# Altium schematic symbol library CHXXX.schlib: 418 symbols (part 3 of 6)
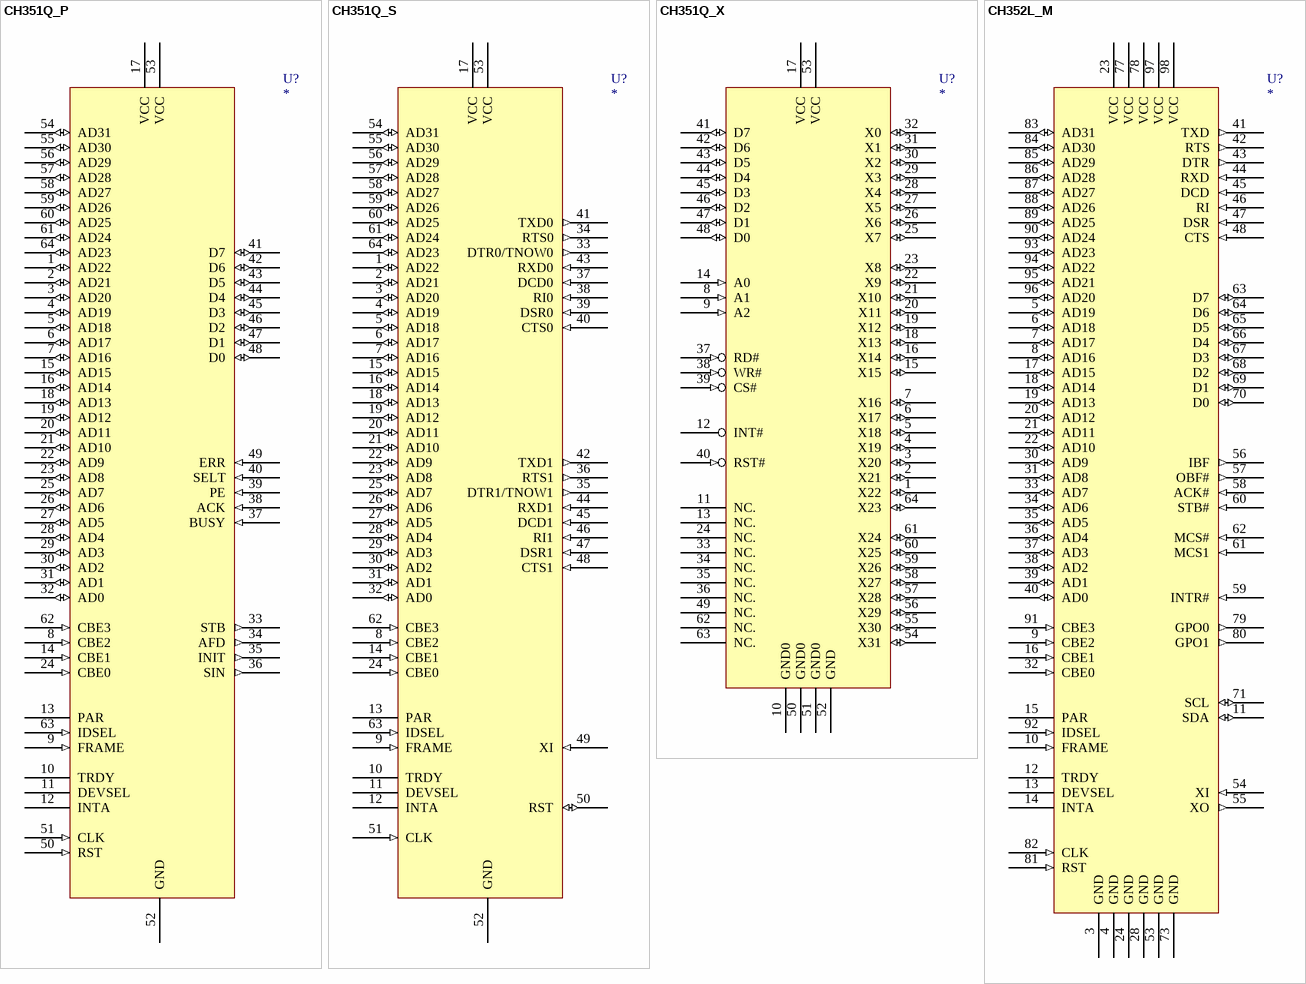
[diagram p52: symbols CH351Q_P to CH352L_M]

## CH351Q_X
designator U?
Parallel I/O expander, 32 GPIO
footprint LQFP64
pins: 1 X22 (io), 2 X21 (io), 3 X20 (io), 4 X19 (io), 5 X18 (io), 6 X17 (io), 7 X16 (io), 8 A1 (in), 9 A2 (in), 10 GND0 (power), 11 NC., 12 INT# (oc), 13 NC., 14 A0 (in), 15 X15 (io), 16 X14 (io), 17 VCC (power), 18 X13 (io), 19 X12 (io), 20 X11 (io), 21 X10 (io), 22 X9 (io), 23 X8 (io), 24 NC., 25 X7 (io), 26 X6 (io), 27 X5 (io), 28 X4 (io), 29 X3 (io), 30 X2 (io), 31 X1 (io), 32 X0 (io), 33 NC., 34 NC., 35 NC., 36 NC., 37 RD# (in), 38 WR# (in), 39 CS# (in), 40 RST# (in), 41 D7 (io), 42 D6 (io), 43 D5 (io), 44 D4 (io), 45 D3 (io), 46 D2 (io), 47 D1 (io), 48 D0 (io), 49 NC., 50 GND0 (power), 51 GND0 (power), 52 GND (power), 53 VCC (power), 54 X31 (io), 55 X30 (io), 56 X29 (io), 57 X28 (io), 58 X27 (io), 59 X26 (io), 60 X25 (io), 61 X24 (io), 62 NC., 63 NC., 64 X23 (io)

## CH352L_M
designator U?
PCI to 8255 mode 2 Parallel for MCU and 16C550 UART / IrDA
footprint LQFP100
pins: 3 GND (power), 4 GND (power), 5 AD19 (io), 6 AD18 (io), 7 AD17 (io), 8 AD16 (io), 9 CBE2 (in), 10 FRAME (in), 11 SDA (io), 12 TRDY (hiz), 13 DEVSEL (hiz), 14 INTA (hiz), 15 PAR (hiz), 16 CBE1 (in), 17 AD15 (io), 18 AD14 (io), 19 AD13 (io), 20 AD12 (io), 21 AD11 (io), 22 AD10 (io), 23 VCC (power), 24 GND (power), 28 GND (power), 30 AD9 (io), 31 AD8 (io), 32 CBE0 (in), 33 AD7 (io), 34 AD6 (io), 35 AD5 (io), 36 AD4 (io), 37 AD3 (io), 38 AD2 (io), 39 AD1 (io), 40 AD0 (io), 41 TXD (out), 42 RTS (out), 43 DTR (out), 44 RXD (in), 45 DCD (in), 46 RI (in), 47 DSR (in), 48 CTS (in), 53 GND (power), 54 XI (in), 55 XO (out), 56 IBF (out), 57 OBF# (out), 58 ACK# (in), 59 INTR# (in), 60 STB# (in), 61 MCS1 (in), 62 MCS# (in), 63 D7 (io), 64 D6 (io), 65 D5 (io), 66 D4 (io), 67 D3 (io), 68 D2 (io), 69 D1 (io), 70 D0 (io), 71 SCL (io), 73 GND (power), 77 VCC (power), 78 VCC (power), 79 GPO0 (out), 80 GPO1 (out), 81 RST (in), 82 CLK (in), 83 AD31 (io), 84 AD30 (io), 85 AD29 (io), 86 AD28 (io), 87 AD27 (io), 88 AD26 (io), 89 AD25 (io), 90 AD24 (io), 91 CBE3 (in), 92 IDSEL (in), 93 AD23 (io), 94 AD22 (io), 95 AD21 (io), 96 AD20 (io), 97 VCC (power), 98 VCC (power)

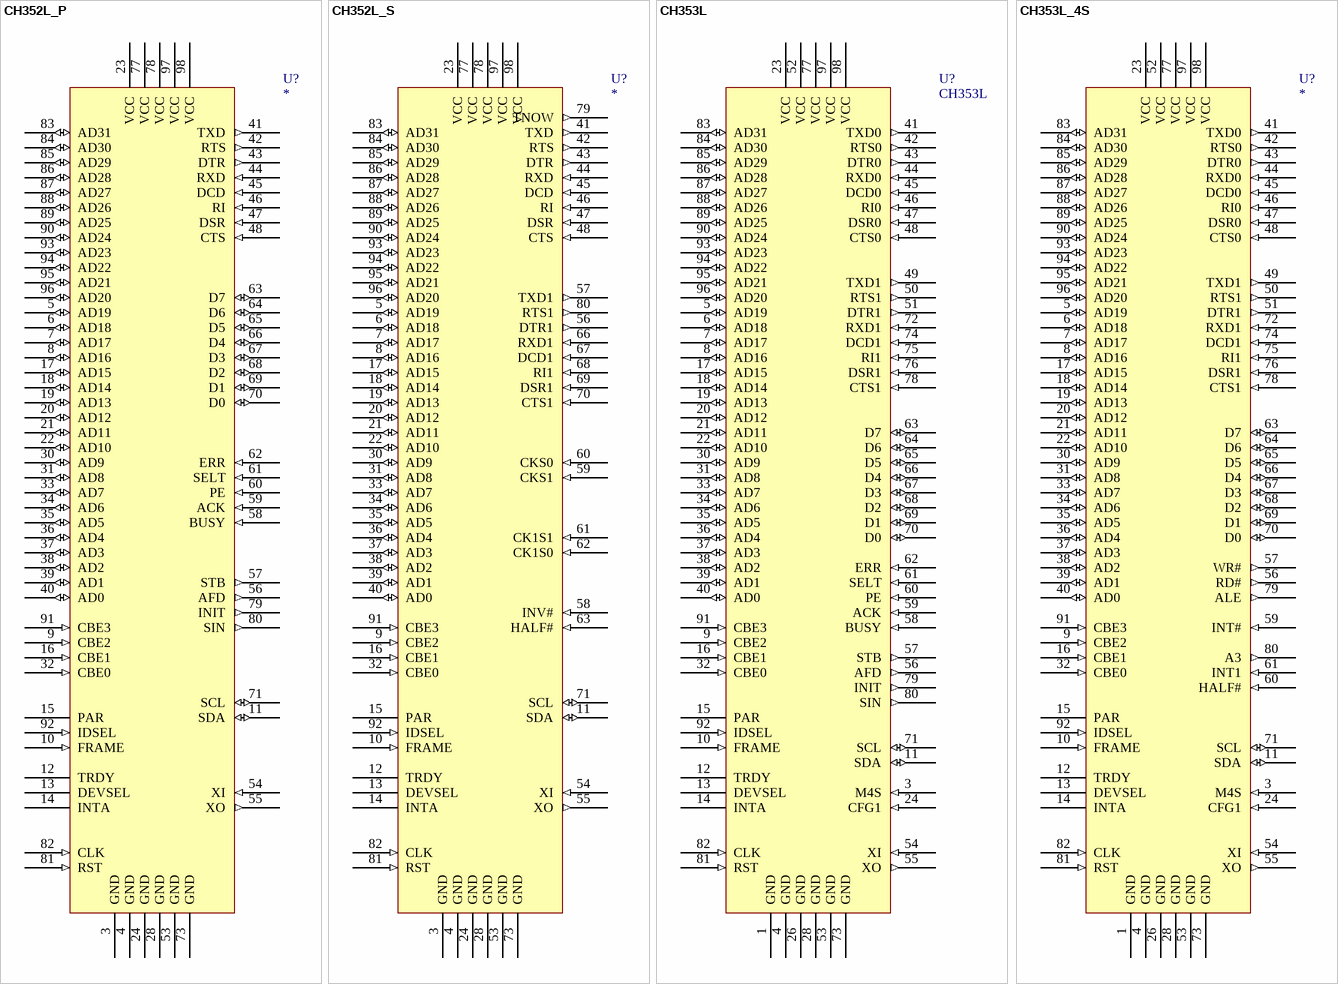
[diagram p18: symbols CH352L_P to CH353L_4S]

## CH352L_P
designator U?
PCI to 1S1P: Print Port / Parallel and 16C550 UART / IrDA
footprint LQFP100
pins: 3 GND (power), 4 GND (power), 5 AD19 (io), 6 AD18 (io), 7 AD17 (io), 8 AD16 (io), 9 CBE2 (in), 10 FRAME (in), 11 SDA (io), 12 TRDY (hiz), 13 DEVSEL (hiz), 14 INTA (hiz), 15 PAR (hiz), 16 CBE1 (in), 17 AD15 (io), 18 AD14 (io), 19 AD13 (io), 20 AD12 (io), 21 AD11 (io), 22 AD10 (io), 23 VCC (power), 24 GND (power), 28 GND (power), 30 AD9 (io), 31 AD8 (io), 32 CBE0 (in), 33 AD7 (io), 34 AD6 (io), 35 AD5 (io), 36 AD4 (io), 37 AD3 (io), 38 AD2 (io), 39 AD1 (io), 40 AD0 (io), 41 TXD (out), 42 RTS (out), 43 DTR (out), 44 RXD (in), 45 DCD (in), 46 RI (in), 47 DSR (in), 48 CTS (in), 53 GND (power), 54 XI (in), 55 XO (out), 56 AFD (out), 57 STB (out), 58 BUSY (in), 59 ACK (in), 60 PE (in), 61 SELT (in), 62 ERR (in), 63 D7 (io), 64 D6 (io), 65 D5 (io), 66 D4 (io), 67 D3 (io), 68 D2 (io), 69 D1 (io), 70 D0 (io), 71 SCL (io), 73 GND (power), 77 VCC (power), 78 VCC (power), 79 INIT (out), 80 SIN (out), 81 RST (in), 82 CLK (in), 83 AD31 (io), 84 AD30 (io), 85 AD29 (io), 86 AD28 (io), 87 AD27 (io), 88 AD26 (io), 89 AD25 (io), 90 AD24 (io), 91 CBE3 (in), 92 IDSEL (in), 93 AD23 (io), 94 AD22 (io), 95 AD21 (io), 96 AD20 (io), 97 VCC (power), 98 VCC (power)

## CH352L_S
designator U?
PCI to 2S: Dual 16C550 UART, TTL Serial*2 / IrDA*1
footprint LQFP100
pins: 3 GND (power), 4 GND (power), 5 AD19 (io), 6 AD18 (io), 7 AD17 (io), 8 AD16 (io), 9 CBE2 (in), 10 FRAME (in), 11 SDA (io), 12 TRDY (hiz), 13 DEVSEL (hiz), 14 INTA (hiz), 15 PAR (hiz), 16 CBE1 (in), 17 AD15 (io), 18 AD14 (io), 19 AD13 (io), 20 AD12 (io), 21 AD11 (io), 22 AD10 (io), 23 VCC (power), 24 GND (power), 28 GND (power), 30 AD9 (io), 31 AD8 (io), 32 CBE0 (in), 33 AD7 (io), 34 AD6 (io), 35 AD5 (io), 36 AD4 (io), 37 AD3 (io), 38 AD2 (io), 39 AD1 (io), 40 AD0 (io), 41 TXD (out), 42 RTS (out), 43 DTR (out), 44 RXD (in), 45 DCD (in), 46 RI (in), 47 DSR (in), 48 CTS (in), 53 GND (power), 54 XI (in), 55 XO (out), 56 DTR1 (out), 57 TXD1 (out), 58 INV# (in), 59 CKS1 (in), 60 CKS0 (in), 61 CK1S1 (in), 62 CK1S0 (in), 63 HALF# (in), 66 RXD1 (in), 67 DCD1 (in), 68 RI1 (in), 69 DSR1 (in), 70 CTS1 (in), 71 SCL (io), 73 GND (power), 77 VCC (power), 78 VCC (power), 79 TNOW (out), 80 RTS1 (out), 81 RST (in), 82 CLK (in), 83 AD31 (io), 84 AD30 (io), 85 AD29 (io), 86 AD28 (io), 87 AD27 (io), 88 AD26 (io), 89 AD25 (io), 90 AD24 (io), 91 CBE3 (in), 92 IDSEL (in), 93 AD23 (io), 94 AD22 (io), 95 AD21 (io), 96 AD20 (io), 97 VCC (power), 98 VCC (power)

## CH353L
designator U?
PCI to 2S1P: Print Port / Parallel and Dual 16C550 UART / IrDA*1
footprint LQFP100
pins: 1 GND (power), 3 M4S (in), 4 GND (power), 5 AD19 (io), 6 AD18 (io), 7 AD17 (io), 8 AD16 (io), 9 CBE2 (in), 10 FRAME (in), 11 SDA (io), 12 TRDY (hiz), 13 DEVSEL (hiz), 14 INTA (hiz), 15 PAR (hiz), 16 CBE1 (in), 17 AD15 (io), 18 AD14 (io), 19 AD13 (io), 20 AD12 (io), 21 AD11 (io), 22 AD10 (io), 23 VCC (power), 24 CFG1 (in), 26 GND (power), 28 GND (power), 30 AD9 (io), 31 AD8 (io), 32 CBE0 (in), 33 AD7 (io), 34 AD6 (io), 35 AD5 (io), 36 AD4 (io), 37 AD3 (io), 38 AD2 (io), 39 AD1 (io), 40 AD0 (io), 41 TXD0 (out), 42 RTS0 (out), 43 DTR0 (out), 44 RXD0 (in), 45 DCD0 (in), 46 RI0 (in), 47 DSR0 (in), 48 CTS0 (in), 49 TXD1 (out), 50 RTS1 (out), 51 DTR1 (out), 52 VCC (power), 53 GND (power), 54 XI (in), 55 XO (out), 56 AFD (out), 57 STB (out), 58 BUSY (in), 59 ACK (in), 60 PE (in), 61 SELT (in), 62 ERR (in), 63 D7 (io), 64 D6 (io), 65 D5 (io), 66 D4 (io), 67 D3 (io), 68 D2 (io), 69 D1 (io), 70 D0 (io), 71 SCL (io), 72 RXD1 (in), 73 GND (power), 74 DCD1 (in), 75 RI1 (in), 76 DSR1 (in), 77 VCC (power), 78 CTS1 (in), 79 INIT (out), 80 SIN (out), 81 RST (in), 82 CLK (in), 83 AD31 (io), 84 AD30 (io), 85 AD29 (io), 86 AD28 (io), 87 AD27 (io), 88 AD26 (io), 89 AD25 (io), 90 AD24 (io), 91 CBE3 (in), 92 IDSEL (in), 93 AD23 (io), 94 AD22 (io), 95 AD21 (io), 96 AD20 (io), 97 VCC (power), 98 VCC (power)

## CH353L_4S
designator U?
PCI to 4S: Dual 16C550 UART + external dual, TTL Serial*4
footprint LQFP100
pins: 1 GND (power), 3 M4S (in), 4 GND (power), 5 AD19 (io), 6 AD18 (io), 7 AD17 (io), 8 AD16 (io), 9 CBE2 (in), 10 FRAME (in), 11 SDA (io), 12 TRDY (hiz), 13 DEVSEL (hiz), 14 INTA (hiz), 15 PAR (hiz), 16 CBE1 (in), 17 AD15 (io), 18 AD14 (io), 19 AD13 (io), 20 AD12 (io), 21 AD11 (io), 22 AD10 (io), 23 VCC (power), 24 CFG1 (in), 26 GND (power), 28 GND (power), 30 AD9 (io), 31 AD8 (io), 32 CBE0 (in), 33 AD7 (io), 34 AD6 (io), 35 AD5 (io), 36 AD4 (io), 37 AD3 (io), 38 AD2 (io), 39 AD1 (io), 40 AD0 (io), 41 TXD0 (out), 42 RTS0 (out), 43 DTR0 (out), 44 RXD0 (in), 45 DCD0 (in), 46 RI0 (in), 47 DSR0 (in), 48 CTS0 (in), 49 TXD1 (out), 50 RTS1 (out), 51 DTR1 (out), 52 VCC (power), 53 GND (power), 54 XI (in), 55 XO (out), 56 RD# (out), 57 WR# (out), 59 INT# (in), 60 HALF# (in), 61 INT1 (in), 63 D7 (io), 64 D6 (io), 65 D5 (io), 66 D4 (io), 67 D3 (io), 68 D2 (io), 69 D1 (io), 70 D0 (io), 71 SCL (io), 72 RXD1 (in), 73 GND (power), 74 DCD1 (in), 75 RI1 (in), 76 DSR1 (in), 77 VCC (power), 78 CTS1 (in), 79 ALE (out), 80 A3 (out), 81 RST (in), 82 CLK (in), 83 AD31 (io), 84 AD30 (io), 85 AD29 (io), 86 AD28 (io), 87 AD27 (io), 88 AD26 (io), 89 AD25 (io), 90 AD24 (io), 91 CBE3 (in), 92 IDSEL (in), 93 AD23 (io), 94 AD22 (io), 95 AD21 (io), 96 AD20 (io), 97 VCC (power), 98 VCC (power)

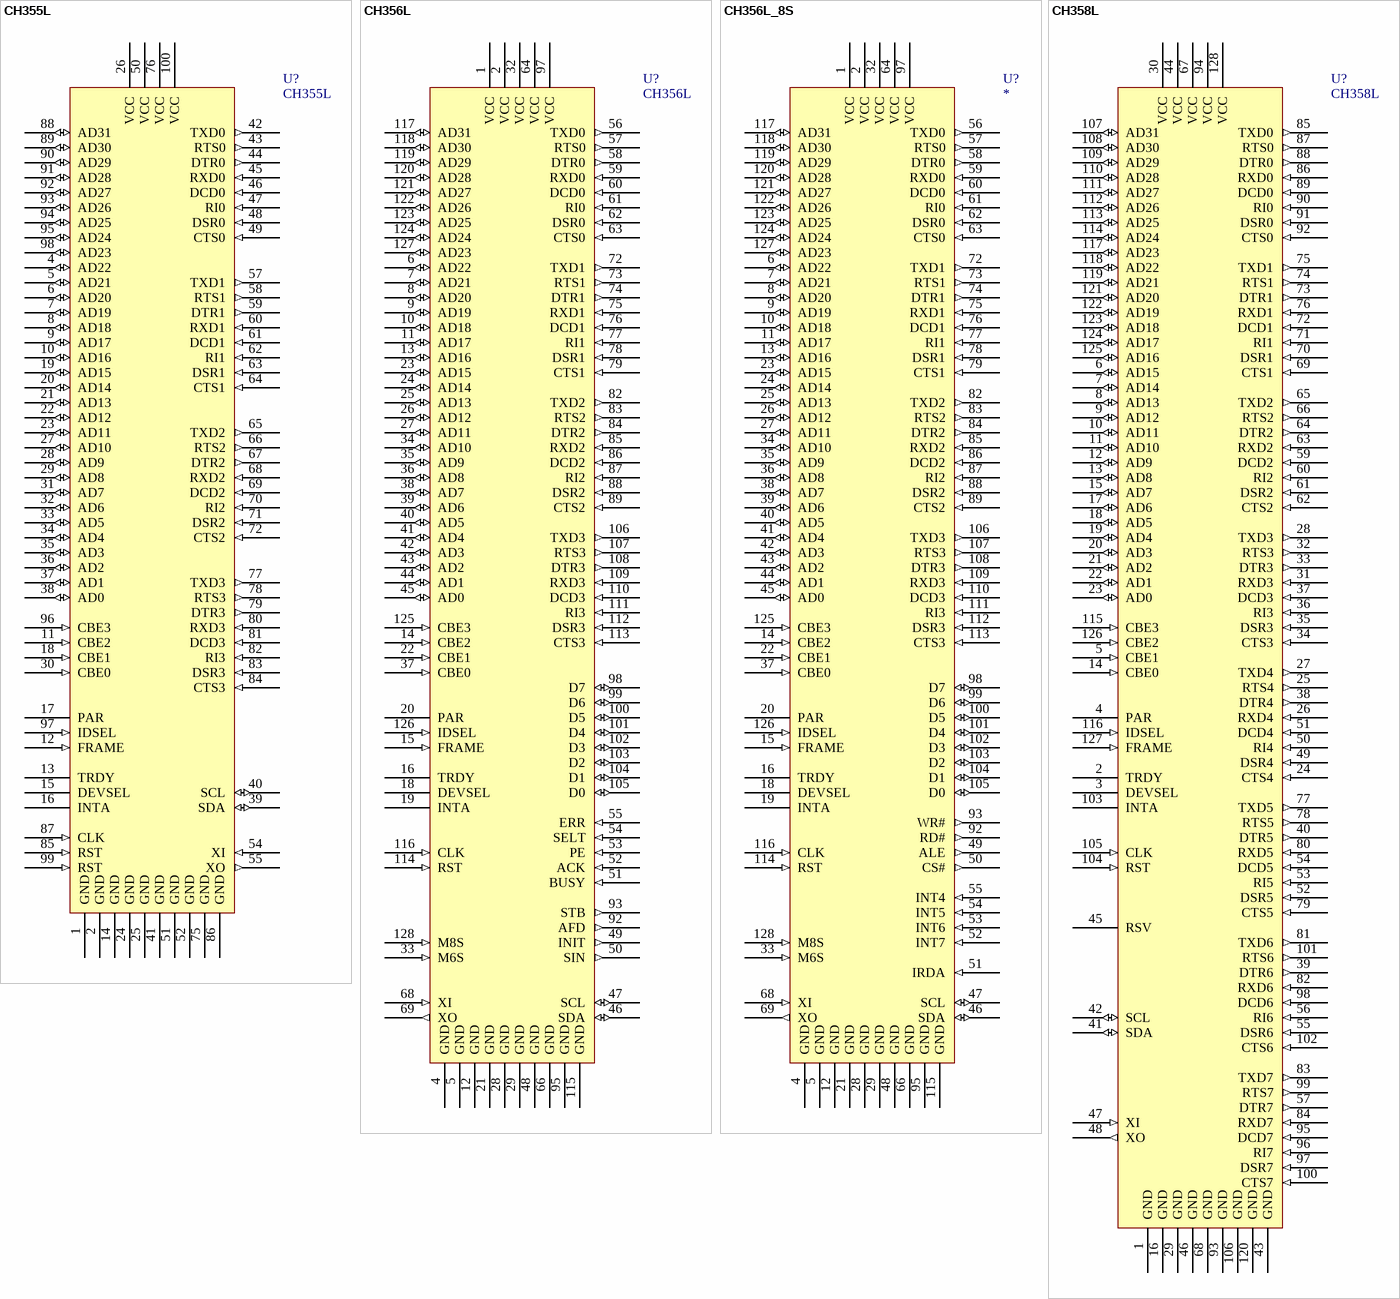
[diagram p19: symbols CH355L to CH358L]

## CH355L
designator U?
PCI to 4S: Quad 16C550 UART, TTL Serial*4 / IrDA*1
footprint LQFP100
pins: 1 GND (power), 2 GND (power), 4 AD22 (io), 5 AD21 (io), 6 AD20 (io), 7 AD19 (io), 8 AD18 (io), 9 AD17 (io), 10 AD16 (io), 11 CBE2 (in), 12 FRAME (in), 13 TRDY (hiz), 14 GND (power), 15 DEVSEL (hiz), 16 INTA (hiz), 17 PAR (hiz), 18 CBE1 (in), 19 AD15 (io), 20 AD14 (io), 21 AD13 (io), 22 AD12 (io), 23 AD11 (io), 24 GND (power), 25 GND (power), 26 VCC (power), 27 AD10 (io), 28 AD9 (io), 29 AD8 (io), 30 CBE0 (in), 31 AD7 (io), 32 AD6 (io), 33 AD5 (io), 34 AD4 (io), 35 AD3 (io), 36 AD2 (io), 37 AD1 (io), 38 AD0 (io), 39 SDA (io), 40 SCL (io), 41 GND (power), 42 TXD0 (out), 43 RTS0 (out), 44 DTR0 (out), 45 RXD0 (in), 46 DCD0 (in), 47 RI0 (in), 48 DSR0 (in), 49 CTS0 (in), 50 VCC (power), 51 GND (power), 52 GND (power), 54 XI (in), 55 XO (out), 57 TXD1 (out), 58 RTS1 (out), 59 DTR1 (out), 60 RXD1 (in), 61 DCD1 (in), 62 RI1 (in), 63 DSR1 (in), 64 CTS1 (in), 65 TXD2 (out), 66 RTS2 (out), 67 DTR2 (out), 68 RXD2 (in), 69 DCD2 (in), 70 RI2 (in), 71 DSR2 (in), 72 CTS2 (in), 75 GND (power), 76 VCC (power), 77 TXD3 (out), 78 RTS3 (out), 79 DTR3 (out), 80 RXD3 (in), 81 DCD3 (in), 82 RI3 (in), 83 DSR3 (in), 84 CTS3 (in), 85 RST (in), 86 GND (power), 87 CLK (in), 88 AD31 (io), 89 AD30 (io), 90 AD29 (io), 91 AD28 (io), 92 AD27 (io), 93 AD26 (io), 94 AD25 (io), 95 AD24 (io), 96 CBE3 (in), 97 IDSEL (in), 98 AD23 (io), 99 RST (in), 100 VCC (power)

## CH356L
designator U?
PCI to 4S1P: Print Port / Parallel and Quad 16C550 UART / IrDA*1
footprint LQFP128
pins: 1 VCC (power), 2 VCC (power), 4 GND (power), 5 GND (power), 6 AD22 (io), 7 AD21 (io), 8 AD20 (io), 9 AD19 (io), 10 AD18 (io), 11 AD17 (io), 12 GND (power), 13 AD16 (io), 14 CBE2 (in), 15 FRAME (in), 16 TRDY (hiz), 18 DEVSEL (hiz), 19 INTA (hiz), 20 PAR (hiz), 21 GND (power), 22 CBE1 (in), 23 AD15 (io), 24 AD14 (io), 25 AD13 (io), 26 AD12 (io), 27 AD11 (io), 28 GND (power), 29 GND (power), 32 VCC (power), 33 M6S (in), 34 AD10 (io), 35 AD9 (io), 36 AD8 (io), 37 CBE0 (in), 38 AD7 (io), 39 AD6 (io), 40 AD5 (io), 41 AD4 (io), 42 AD3 (io), 43 AD2 (io), 44 AD1 (io), 45 AD0 (io), 46 SDA (io), 47 SCL (io), 48 GND (power), 49 INIT (out), 50 SIN (out), 51 BUSY (in), 52 ACK (in), 53 PE (in), 54 SELT (in), 55 ERR (in), 56 TXD0 (out), 57 RTS0 (out), 58 DTR0 (out), 59 RXD0 (in), 60 DCD0 (in), 61 RI0 (in), 62 DSR0 (in), 63 CTS0 (in), 64 VCC (power), 66 GND (power), 68 XI (in), 69 XO (out), 72 TXD1 (out), 73 RTS1 (out), 74 DTR1 (out), 75 RXD1 (in), 76 DCD1 (in), 77 RI1 (in), 78 DSR1 (in), 79 CTS1 (in), 82 TXD2 (out), 83 RTS2 (out), 84 DTR2 (out), 85 RXD2 (in), 86 DCD2 (in), 87 RI2 (in), 88 DSR2 (in), 89 CTS2 (in), 92 AFD (out), 93 STB (out), 95 GND (power), 97 VCC (power), 98 D7 (io), 99 D6 (io), 100 D5 (io), 101 D4 (io), 102 D3 (io), 103 D2 (io), 104 D1 (io), 105 D0 (io), 106 TXD3 (out), 107 RTS3 (out), 108 DTR3 (out), 109 RXD3 (in), 110 DCD3 (in), 111 RI3 (in), 112 DSR3 (in), 113 CTS3 (in), 114 RST (in), 115 GND (power), 116 CLK (in), 117 AD31 (io), 118 AD30 (io), 119 AD29 (io), 120 AD28 (io), 121 AD27 (io), 122 AD26 (io), 123 AD25 (io), 124 AD24 (io), 125 CBE3 (in), 126 IDSEL (in), 127 AD23 (io), 128 M8S (in)

## CH356L_8S
designator U?
PCI to 8S: Quad 16C550 UART + external Quad, TTL Serial*8
footprint LQFP128
pins: 1 VCC (power), 2 VCC (power), 4 GND (power), 5 GND (power), 6 AD22 (io), 7 AD21 (io), 8 AD20 (io), 9 AD19 (io), 10 AD18 (io), 11 AD17 (io), 12 GND (power), 13 AD16 (io), 14 CBE2 (in), 15 FRAME (in), 16 TRDY (hiz), 18 DEVSEL (hiz), 19 INTA (hiz), 20 PAR (hiz), 21 GND (power), 22 CBE1 (in), 23 AD15 (io), 24 AD14 (io), 25 AD13 (io), 26 AD12 (io), 27 AD11 (io), 28 GND (power), 29 GND (power), 32 VCC (power), 33 M6S (in), 34 AD10 (io), 35 AD9 (io), 36 AD8 (io), 37 CBE0 (in), 38 AD7 (io), 39 AD6 (io), 40 AD5 (io), 41 AD4 (io), 42 AD3 (io), 43 AD2 (io), 44 AD1 (io), 45 AD0 (io), 46 SDA (io), 47 SCL (io), 48 GND (power), 49 ALE (out), 50 CS# (out), 51 IRDA (in), 52 INT7 (in), 53 INT6 (in), 54 INT5 (in), 55 INT4 (in), 56 TXD0 (out), 57 RTS0 (out), 58 DTR0 (out), 59 RXD0 (in), 60 DCD0 (in), 61 RI0 (in), 62 DSR0 (in), 63 CTS0 (in), 64 VCC (power), 66 GND (power), 68 XI (in), 69 XO (out), 72 TXD1 (out), 73 RTS1 (out), 74 DTR1 (out), 75 RXD1 (in), 76 DCD1 (in), 77 RI1 (in), 78 DSR1 (in), 79 CTS1 (in), 82 TXD2 (out), 83 RTS2 (out), 84 DTR2 (out), 85 RXD2 (in), 86 DCD2 (in), 87 RI2 (in), 88 DSR2 (in), 89 CTS2 (in), 92 RD# (out), 93 WR# (out), 95 GND (power), 97 VCC (power), 98 D7 (io), 99 D6 (io), 100 D5 (io), 101 D4 (io), 102 D3 (io), 103 D2 (io), 104 D1 (io), 105 D0 (io), 106 TXD3 (out), 107 RTS3 (out), 108 DTR3 (out), 109 RXD3 (in), 110 DCD3 (in), 111 RI3 (in), 112 DSR3 (in), 113 CTS3 (in), 114 RST (in), 115 GND (power), 116 CLK (in), 117 AD31 (io), 118 AD30 (io), 119 AD29 (io), 120 AD28 (io), 121 AD27 (io), 122 AD26 (io), 123 AD25 (io), 124 AD24 (io), 125 CBE3 (in), 126 IDSEL (in), 127 AD23 (io), 128 M8S (in)

## CH358L
designator U?
PCI to 8S: Oct 16C550 UART with 128 byte FIFO, TTL Serial*8 / IrDA*1
footprint LQFP128
pins: 1 GND (power), 2 TRDY (hiz), 3 DEVSEL (hiz), 4 PAR (hiz), 5 CBE1 (in), 6 AD15 (io), 7 AD14 (io), 8 AD13 (io), 9 AD12 (io), 10 AD11 (io), 11 AD10 (io), 12 AD9 (io), 13 AD8 (io), 14 CBE0 (in), 15 AD7 (io), 16 GND (power), 17 AD6 (io), 18 AD5 (io), 19 AD4 (io), 20 AD3 (io), 21 AD2 (io), 22 AD1 (io), 23 AD0 (io), 24 CTS4 (in), 25 RTS4 (out), 26 RXD4 (in), 27 TXD4 (out), 28 TXD3 (out), 29 GND (power), 30 VCC (power), 31 RXD3 (in), 32 RTS3 (out), 33 DTR3 (out), 34 CTS3 (in), 35 DSR3 (in), 36 RI3 (in), 37 DCD3 (in), 38 DTR4 (out), 39 DTR6 (out), 40 DTR5 (out), 41 SDA (io), 42 SCL (io), 43 GND (power), 44 VCC (power), 45 RSV, 46 GND (power), 47 XI (in), 48 XO (out), 49 DSR4 (in), 50 RI4 (in), 51 DCD4 (in), 52 DSR5 (in), 53 RI5 (in), 54 DCD5 (in), 55 DSR6 (in), 56 RI6 (in), 57 DTR7 (out), 59 DCD2 (in), 60 RI2 (in), 61 DSR2 (in), 62 CTS2 (in), 63 RXD2 (in), 64 DTR2 (out), 65 TXD2 (out), 66 RTS2 (out), 67 VCC (power), 68 GND (power), 69 CTS1 (in), 70 DSR1 (in), 71 RI1 (in), 72 DCD1 (in), 73 DTR1 (out), 74 RTS1 (out), 75 TXD1 (out), 76 RXD1 (in), 77 TXD5 (out), 78 RTS5 (out), 79 CTS5 (in), 80 RXD5 (in), 81 TXD6 (out), 82 RXD6 (in), 83 TXD7 (out), 84 RXD7 (in), 85 TXD0 (out), 86 RXD0 (in), 87 RTS0 (out), 88 DTR0 (out), 89 DCD0 (in), 90 RI0 (in), 91 DSR0 (in), 92 CTS0 (in), 93 GND (power), 94 VCC (power), 95 DCD7 (in), 96 RI7 (in), 97 DSR7 (in), 98 DCD6 (in), 99 RTS7 (out), 100 CTS7 (in), 101 RTS6 (out), 102 CTS6 (in), 103 INTA (hiz), 104 RST (in), 105 CLK (in), 106 GND (power), 107 AD31 (io), 108 AD30 (io), 109 AD29 (io), 110 AD28 (io), 111 AD27 (io), 112 AD26 (io), 113 AD25 (io), 114 AD24 (io), 115 CBE3 (in), 116 IDSEL (in), 117 AD23 (io), 118 AD22 (io), 119 AD21 (io), 120 GND (power), 121 AD20 (io), 122 AD19 (io), 123 AD18 (io), 124 AD17 (io), 125 AD16 (io), 126 CBE2 (in), 127 FRAME (in), 128 VCC (power)

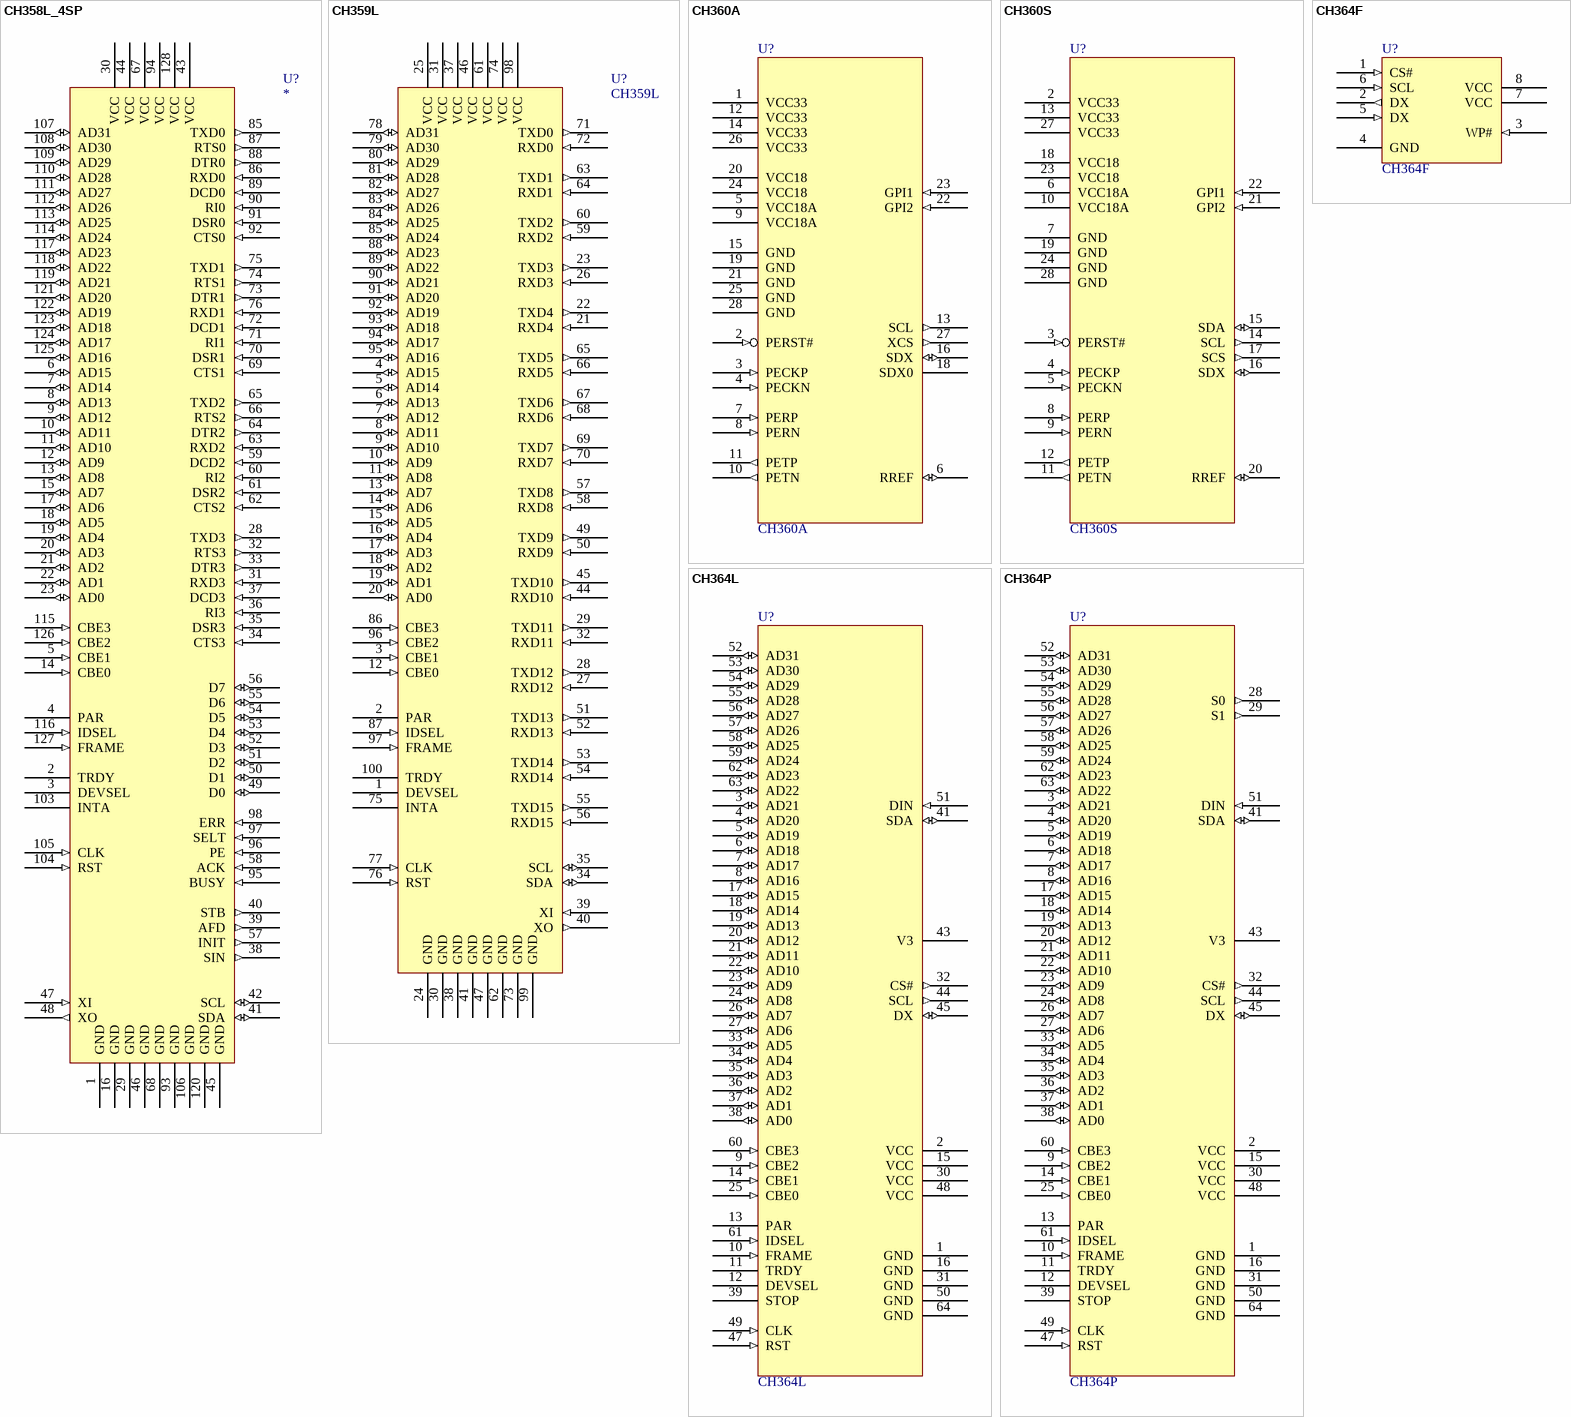
[diagram p20: symbols CH358L_4SP to CH364P]

## CH358L_4SP
designator U?
PCI to 4S1P: Print Port / Parallel and Quad 16C550 UART with 128 byte FIFO
footprint LQFP128
pins: 1 GND (power), 2 TRDY (hiz), 3 DEVSEL (hiz), 4 PAR (hiz), 5 CBE1 (in), 6 AD15 (io), 7 AD14 (io), 8 AD13 (io), 9 AD12 (io), 10 AD11 (io), 11 AD10 (io), 12 AD9 (io), 13 AD8 (io), 14 CBE0 (in), 15 AD7 (io), 16 GND (power), 17 AD6 (io), 18 AD5 (io), 19 AD4 (io), 20 AD3 (io), 21 AD2 (io), 22 AD1 (io), 23 AD0 (io), 28 TXD3 (out), 29 GND (power), 30 VCC (power), 31 RXD3 (in), 32 RTS3 (out), 33 DTR3 (out), 34 CTS3 (in), 35 DSR3 (in), 36 RI3 (in), 37 DCD3 (in), 38 SIN (out), 39 AFD (out), 40 STB (out), 41 SDA (io), 42 SCL (io), 43 VCC (power), 44 VCC (power), 45 GND (power), 46 GND (power), 47 XI (in), 48 XO (out), 49 D0 (io), 50 D1 (io), 51 D2 (io), 52 D3 (io), 53 D4 (io), 54 D5 (io), 55 D6 (io), 56 D7 (io), 57 INIT (out), 58 ACK (in), 59 DCD2 (in), 60 RI2 (in), 61 DSR2 (in), 62 CTS2 (in), 63 RXD2 (in), 64 DTR2 (out), 65 TXD2 (out), 66 RTS2 (out), 67 VCC (power), 68 GND (power), 69 CTS1 (in), 70 DSR1 (in), 71 RI1 (in), 72 DCD1 (in), 73 DTR1 (out), 74 RTS1 (out), 75 TXD1 (out), 76 RXD1 (in), 85 TXD0 (out), 86 RXD0 (in), 87 RTS0 (out), 88 DTR0 (out), 89 DCD0 (in), 90 RI0 (in), 91 DSR0 (in), 92 CTS0 (in), 93 GND (power), 94 VCC (power), 95 BUSY (in), 96 PE (in), 97 SELT (in), 98 ERR (in), 103 INTA (hiz), 104 RST (in), 105 CLK (in), 106 GND (power), 107 AD31 (io), 108 AD30 (io), 109 AD29 (io), 110 AD28 (io), 111 AD27 (io), 112 AD26 (io), 113 AD25 (io), 114 AD24 (io), 115 CBE3 (in), 116 IDSEL (in), 117 AD23 (io), 118 AD22 (io), 119 AD21 (io), 120 GND (power), 121 AD20 (io), 122 AD19 (io), 123 AD18 (io), 124 AD17 (io), 125 AD16 (io), 126 CBE2 (in), 127 FRAME (in), 128 VCC (power)

## CH359L
designator U?
PCI to 16S: TTL 3 wire Serial*16, 128 byte FIFO, no modem
footprint LQFP100
pins: 1 DEVSEL (hiz), 2 PAR (hiz), 3 CBE1 (in), 4 AD15 (io), 5 AD14 (io), 6 AD13 (io), 7 AD12 (io), 8 AD11 (io), 9 AD10 (io), 10 AD9 (io), 11 AD8 (io), 12 CBE0 (in), 13 AD7 (io), 14 AD6 (io), 15 AD5 (io), 16 AD4 (io), 17 AD3 (io), 18 AD2 (io), 19 AD1 (io), 20 AD0 (io), 21 RXD4 (in), 22 TXD4 (out), 23 TXD3 (out), 24 GND (power), 25 VCC (power), 26 RXD3 (in), 27 RXD12 (in), 28 TXD12 (out), 29 TXD11 (out), 30 GND (power), 31 VCC (power), 32 RXD11 (in), 34 SDA (io), 35 SCL (io), 37 VCC (power), 38 GND (power), 39 XI (in), 40 XO (out), 41 GND (power), 44 RXD10 (in), 45 TXD10 (out), 46 VCC (power), 47 GND (power), 49 TXD9 (out), 50 RXD9 (in), 51 TXD13 (out), 52 RXD13 (in), 53 TXD14 (out), 54 RXD14 (in), 55 TXD15 (out), 56 RXD15 (in), 57 TXD8 (out), 58 RXD8 (in), 59 RXD2 (in), 60 TXD2 (out), 61 VCC (power), 62 GND (power), 63 TXD1 (out), 64 RXD1 (in), 65 TXD5 (out), 66 RXD5 (in), 67 TXD6 (out), 68 RXD6 (in), 69 TXD7 (out), 70 RXD7 (in), 71 TXD0 (out), 72 RXD0 (in), 73 GND (power), 74 VCC (power), 75 INTA (hiz), 76 RST (in), 77 CLK (in), 78 AD31 (io), 79 AD30 (io), 80 AD29 (io), 81 AD28 (io), 82 AD27 (io), 83 AD26 (io), 84 AD25 (io), 85 AD24 (io), 86 CBE3 (in), 87 IDSEL (in), 88 AD23 (io), 89 AD22 (io), 90 AD21 (io), 91 AD20 (io), 92 AD19 (io), 93 AD18 (io), 94 AD17 (io), 95 AD16 (io), 96 CBE2 (in), 97 FRAME (in), 98 VCC (power), 99 GND (power), 100 TRDY (hiz)

## CH360A
designator U?
PCIe Device embed FlashROM for Expansion ROM
footprint SOP28
pins: 1 VCC33 (power), 2 PERST# (in), 3 PECKP (in), 4 PECKN (in), 5 VCC18A (power), 6 RREF (io), 7 PERP (in), 8 PERN (in), 9 VCC18A (power), 10 PETN (out), 11 PETP (out), 12 VCC33 (power), 13 SCL (out), 14 VCC33 (power), 15 GND (power), 16 SDX (io), 18 SDX0 (hiz), 19 GND (power), 20 VCC18 (power), 21 GND (power), 22 GPI2 (in), 23 GPI1 (in), 24 VCC18 (power), 25 GND (power), 26 VCC33 (power), 27 XCS (out), 28 GND (power)

## CH360S
designator U?
PCIe Device for Expansion ROM
footprint SOP28
pins: 2 VCC33 (power), 3 PERST# (in), 4 PECKP (in), 5 PECKN (in), 6 VCC18A (power), 7 GND (power), 8 PERP (in), 9 PERN (in), 10 VCC18A (power), 11 PETN (out), 12 PETP (out), 13 VCC33 (power), 14 SCL (out), 15 SDA (io), 16 SDX (io), 17 SCS (out), 18 VCC18 (power), 19 GND (power), 20 RREF (io), 21 GPI2 (in), 22 GPI1 (in), 23 VCC18 (power), 24 GND (power), 27 VCC33 (power), 28 GND (power)

## CH364F
designator U?
Flash ROM, Member of CH364/CH366 chipsets
footprint SOP8
pins: 1 CS# (in), 2 DX (out), 3 WP# (in), 4 GND (power), 5 DX (in), 6 SCL (in), 7 VCC (power), 8 VCC (power)

## CH364L
designator U?
PCI Device / Slave Embedded Flash ROM, for Expansion ROM
footprint QFP64
pins: 1 GND (power), 2 VCC (power), 3 AD21 (io), 4 AD20 (io), 5 AD19 (io), 6 AD18 (io), 7 AD17 (io), 8 AD16 (io), 9 CBE2 (in), 10 FRAME (in), 11 TRDY (hiz), 12 DEVSEL (hiz), 13 PAR (hiz), 14 CBE1 (in), 15 VCC (power), 16 GND (power), 17 AD15 (io), 18 AD14 (io), 19 AD13 (io), 20 AD12 (io), 21 AD11 (io), 22 AD10 (io), 23 AD9 (io), 24 AD8 (io), 25 CBE0 (in), 26 AD7 (io), 27 AD6 (io), 30 VCC (power), 31 GND (power), 32 CS# (out), 33 AD5 (io), 34 AD4 (io), 35 AD3 (io), 36 AD2 (io), 37 AD1 (io), 38 AD0 (io), 39 STOP (hiz), 41 SDA (io), 43 V3 (power), 44 SCL (out), 45 DX (io), 47 RST (in), 48 VCC (power), 49 CLK (in), 50 GND (power), 51 DIN (in), 52 AD31 (io), 53 AD30 (io), 54 AD29 (io), 55 AD28 (io), 56 AD27 (io), 57 AD26 (io), 58 AD25 (io), 59 AD24 (io), 60 CBE3 (in), 61 IDSEL (in), 62 AD23 (io), 63 AD22 (io), 64 GND (power)

## CH364P
designator U?
PCI Device / Slave Embedded Flash ROM, for Expansion ROM with control
footprint QFP64
pins: 1 GND (power), 2 VCC (power), 3 AD21 (io), 4 AD20 (io), 5 AD19 (io), 6 AD18 (io), 7 AD17 (io), 8 AD16 (io), 9 CBE2 (in), 10 FRAME (in), 11 TRDY (hiz), 12 DEVSEL (hiz), 13 PAR (hiz), 14 CBE1 (in), 15 VCC (power), 16 GND (power), 17 AD15 (io), 18 AD14 (io), 19 AD13 (io), 20 AD12 (io), 21 AD11 (io), 22 AD10 (io), 23 AD9 (io), 24 AD8 (io), 25 CBE0 (in), 26 AD7 (io), 27 AD6 (io), 28 S0 (out), 29 S1 (out), 30 VCC (power), 31 GND (power), 32 CS# (out), 33 AD5 (io), 34 AD4 (io), 35 AD3 (io), 36 AD2 (io), 37 AD1 (io), 38 AD0 (io), 39 STOP (hiz), 41 SDA (io), 43 V3 (power), 44 SCL (out), 45 DX (io), 47 RST (in), 48 VCC (power), 49 CLK (in), 50 GND (power), 51 DIN (in), 52 AD31 (io), 53 AD30 (io), 54 AD29 (io), 55 AD28 (io), 56 AD27 (io), 57 AD26 (io), 58 AD25 (io), 59 AD24 (io), 60 CBE3 (in), 61 IDSEL (in), 62 AD23 (io), 63 AD22 (io), 64 GND (power)

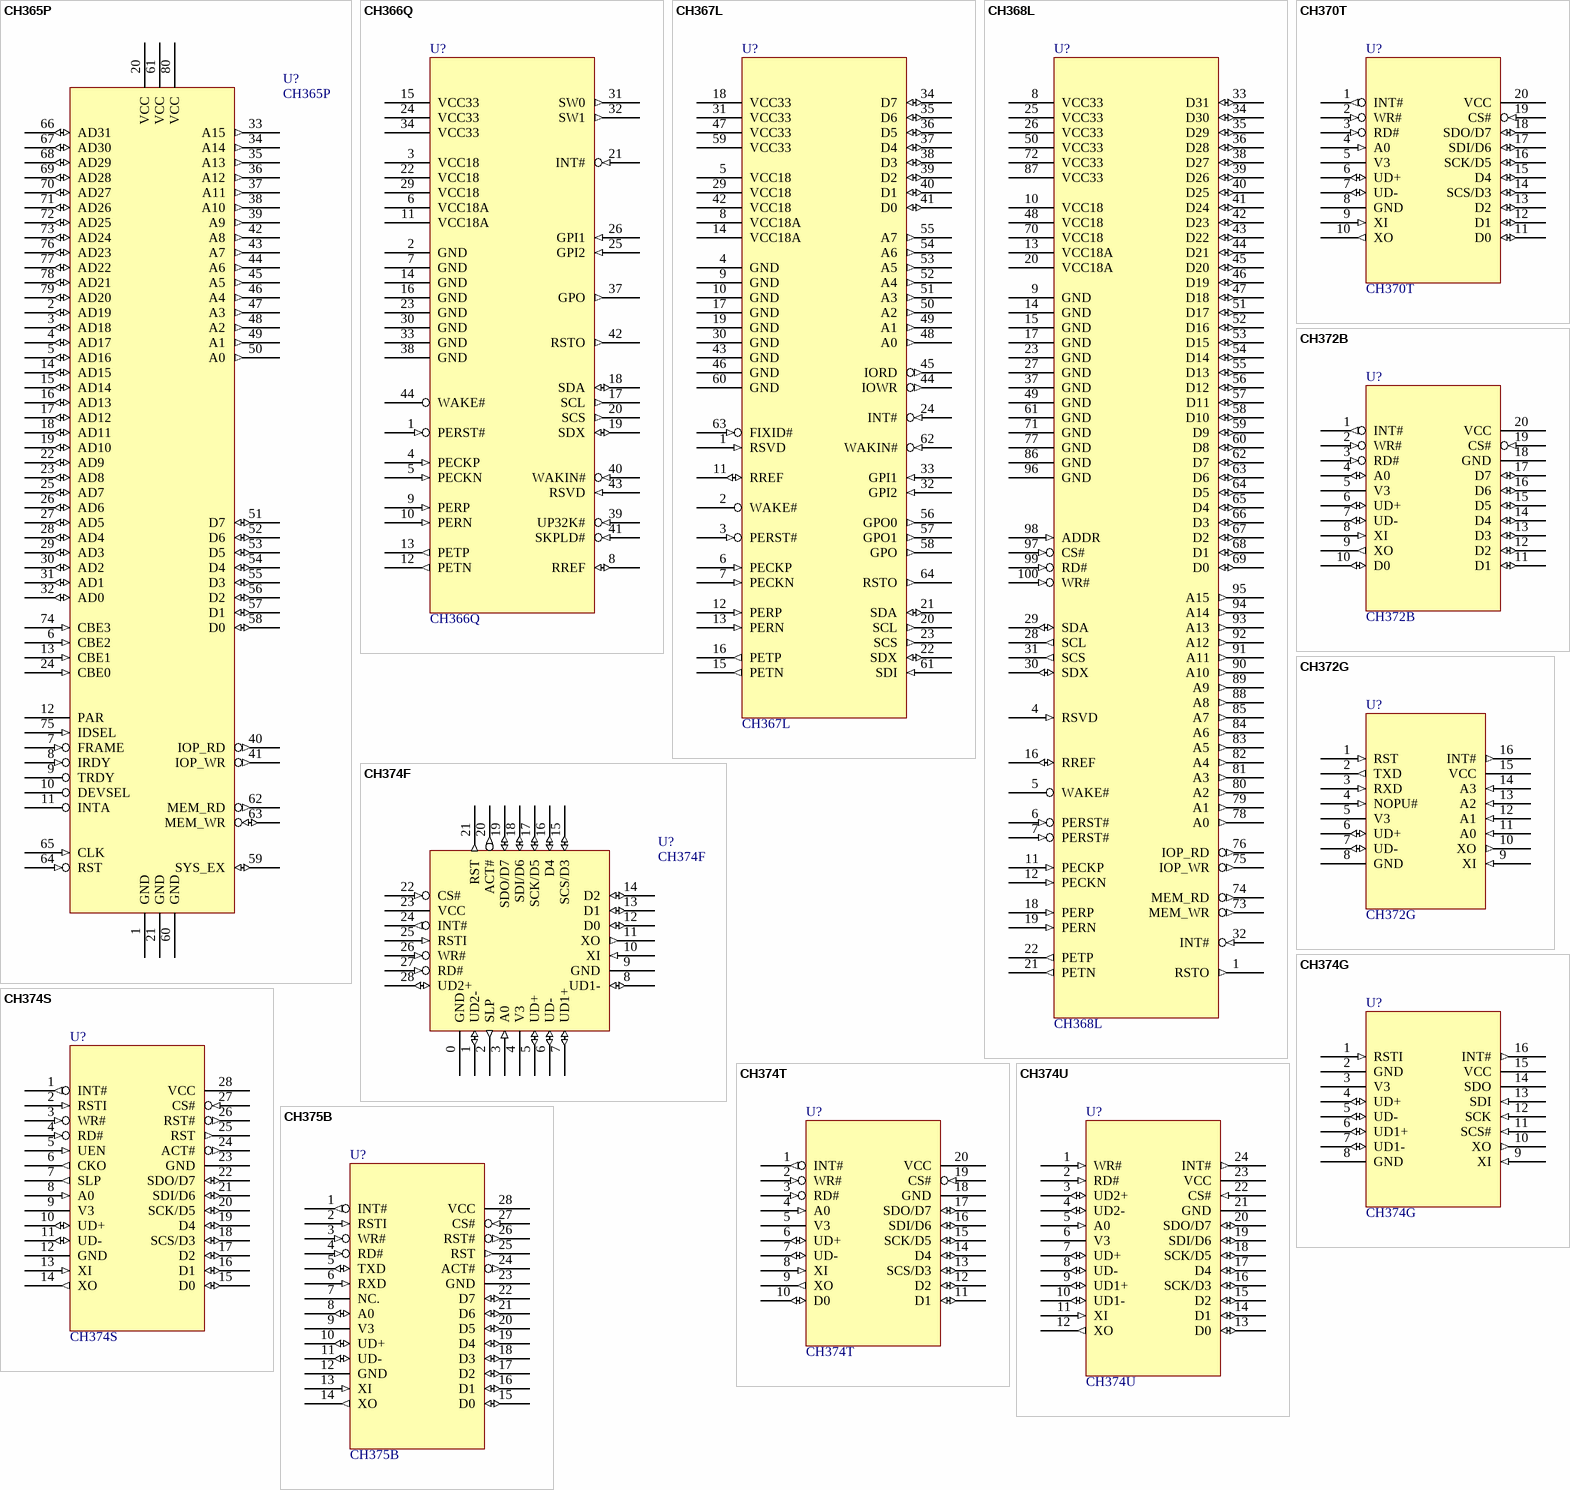
[diagram p21: symbols CH365P to CH375B]

## CH365P
designator U?
PCI Device / Slave, for I/O port or RAM / ROM
footprint PQFP80
pins: 1 GND (power), 2 AD19 (io), 3 AD18 (io), 4 AD17 (io), 5 AD16 (io), 6 CBE2 (in), 7 FRAME (in), 8 IRDY (in), 9 TRDY (hiz), 10 DEVSEL (hiz), 11 INTA (hiz), 12 PAR (hiz), 13 CBE1 (in), 14 AD15 (io), 15 AD14 (io), 16 AD13 (io), 17 AD12 (io), 18 AD11 (io), 19 AD10 (io), 20 VCC (power), 21 GND (power), 22 AD9 (io), 23 AD8 (io), 24 CBE0 (in), 25 AD7 (io), 26 AD6 (io), 27 AD5 (io), 28 AD4 (io), 29 AD3 (io), 30 AD2 (io), 31 AD1 (io), 32 AD0 (io), 33 A15 (out), 34 A14 (out), 35 A13 (out), 36 A12 (out), 37 A11 (out), 38 A10 (out), 39 A9 (out), 40 IOP_RD (out), 41 IOP_WR (out), 42 A8 (out), 43 A7 (out), 44 A6 (out), 45 A5 (out), 46 A4 (out), 47 A3 (out), 48 A2 (out), 49 A1 (out), 50 A0 (out), 51 D7 (io), 52 D6 (io), 53 D5 (io), 54 D4 (io), 55 D3 (io), 56 D2 (io), 57 D1 (io), 58 D0 (io), 59 SYS_EX (io), 60 GND (power), 61 VCC (power), 62 MEM_RD (out), 63 MEM_WR (io), 64 RST (in), 65 CLK (in), 66 AD31 (io), 67 AD30 (io), 68 AD29 (io), 69 AD28 (io), 70 AD27 (io), 71 AD26 (io), 72 AD25 (io), 73 AD24 (io), 74 CBE3 (in), 75 IDSEL (in), 76 AD23 (io), 77 AD22 (io), 78 AD21 (io), 79 AD20 (io), 80 VCC (power)

## CH366Q
designator U?
PCIe Expansion ROM Controller
footprint LQFP44
pins: 1 PERST# (in), 2 GND (power), 3 VCC18 (power), 4 PECKP (in), 5 PECKN (in), 6 VCC18A (power), 7 GND (power), 8 RREF (io), 9 PERP (in), 10 PERN (in), 11 VCC18A (power), 12 PETN (out), 13 PETP (out), 14 GND (power), 15 VCC33 (power), 16 GND (power), 17 SCL (out), 18 SDA (io), 19 SDX (io), 20 SCS (out), 21 INT# (in), 22 VCC18 (power), 23 GND (power), 24 VCC33 (power), 25 GPI2 (in), 26 GPI1 (in), 29 VCC18 (power), 30 GND (power), 31 SW0 (out), 32 SW1 (out), 33 GND (power), 34 VCC33 (power), 37 GPO (out), 38 GND (power), 39 UP32K# (in), 40 WAKIN# (in), 41 SKPLD# (in), 42 RSTO (out), 43 RSVD (in), 44 WAKE# (oc)

## CH367L
designator U?
PCIe to 8-bit Local Bus, Support I/O Port
footprint LQFP64
pins: 1 RSVD (in), 2 WAKE# (oc), 3 PERST# (in), 4 GND (power), 5 VCC18 (power), 6 PECKP (in), 7 PECKN (in), 8 VCC18A (power), 9 GND (power), 10 GND (power), 11 RREF (io), 12 PERP (in), 13 PERN (in), 14 VCC18A (power), 15 PETN (out), 16 PETP (out), 17 GND (power), 18 VCC33 (power), 19 GND (power), 20 SCL (out), 21 SDA (io), 22 SDX (io), 23 SCS (out), 24 INT# (in), 29 VCC18 (power), 30 GND (power), 31 VCC33 (power), 32 GPI2 (in), 33 GPI1 (in), 34 D7 (io), 35 D6 (io), 36 D5 (io), 37 D4 (io), 38 D3 (io), 39 D2 (io), 40 D1 (io), 41 D0 (io), 42 VCC18 (power), 43 GND (power), 44 IOWR (out), 45 IORD (out), 46 GND (power), 47 VCC33 (power), 48 A0 (out), 49 A1 (out), 50 A2 (out), 51 A3 (out), 52 A4 (out), 53 A5 (out), 54 A6 (out), 55 A7 (out), 56 GPO0 (out), 57 GPO1 (out), 58 GPO (out), 59 VCC33 (power), 60 GND (power), 61 SDI (in), 62 WAKIN# (in), 63 FIXID# (in), 64 RSTO (out)

## CH368L
designator U?
PCIe to 32-bit Local Bus, Support I/O Port and Memory
footprint LQFP100
pins: 1 RSTO (out), 4 RSVD (in), 5 WAKE# (oc), 6 PERST# (in), 7 PERST# (in), 8 VCC33 (power), 9 GND (power), 10 VCC18 (power), 11 PECKP (in), 12 PECKN (in), 13 VCC18A (power), 14 GND (power), 15 GND (power), 16 RREF (io), 17 GND (power), 18 PERP (in), 19 PERN (in), 20 VCC18A (power), 21 PETN (out), 22 PETP (out), 23 GND (power), 25 VCC33 (power), 26 VCC33 (power), 27 GND (power), 28 SCL (out), 29 SDA (io), 30 SDX (io), 31 SCS (out), 32 INT# (in), 33 D31 (io), 34 D30 (io), 35 D29 (io), 36 D28 (io), 37 GND (power), 38 D27 (io), 39 D26 (io), 40 D25 (io), 41 D24 (io), 42 D23 (io), 43 D22 (io), 44 D21 (io), 45 D20 (io), 46 D19 (io), 47 D18 (io), 48 VCC18 (power), 49 GND (power), 50 VCC33 (power), 51 D17 (io), 52 D16 (io), 53 D15 (io), 54 D14 (io), 55 D13 (io), 56 D12 (io), 57 D11 (io), 58 D10 (io), 59 D9 (io), 60 D8 (io), 61 GND (power), 62 D7 (io), 63 D6 (io), 64 D5 (io), 65 D4 (io), 66 D3 (io), 67 D2 (io), 68 D1 (io), 69 D0 (io), 70 VCC18 (power), 71 GND (power), 72 VCC33 (power), 73 MEM_WR (out), 74 MEM_RD (out), 75 IOP_WR (out), 76 IOP_RD (out), 77 GND (power), 78 A0 (out), 79 A1 (out), 80 A2 (out), 81 A3 (out), 82 A4 (out), 83 A5 (out), 84 A6 (out), 85 A7 (out), 86 GND (power), 87 VCC33 (power), 88 A8 (out), 89 A9 (out), 90 A10 (out), 91 A11 (out), 92 A12 (out), 93 A13 (out), 94 A14 (out), 95 A15 (out), 96 GND (power), 97 CS# (in), 98 ADDR (in), 99 RD# (in), 100 WR# (in)

## CH370T
designator U?
USB Host for MCU, parallel / SPI
footprint SSOP20
pins: 1 INT# (out), 2 WR# (in), 3 RD# (in), 4 A0 (in), 5 V3 (power), 6 UD+ (io), 7 UD- (io), 8 GND (power), 9 XI (in), 10 XO (out), 11 D0 (io), 12 D1 (io), 13 D2 (io), 14 SCS/D3 (io), 15 D4 (io), 16 SCK/D5 (io), 17 SDI/D6 (io), 18 SDO/D7 (io), 19 CS# (in), 20 VCC (power)

## CH372B
designator U?
USB Device / Slave for MCU, Parallel
footprint SSOP20
pins: 1 INT# (out), 2 WR# (in), 3 RD# (in), 4 A0 (io), 5 V3 (power), 6 UD+ (io), 7 UD- (io), 8 XI (in), 9 XO (out), 10 D0 (io), 11 D1 (io), 12 D2 (io), 13 D3 (io), 14 D4 (io), 15 D5 (io), 16 D6 (io), 17 D7 (io), 18 GND (power), 19 CS# (in), 20 VCC (power)

## CH372G
designator U?
USB Device / Slave for MCU, Serial UART
footprint SOP16
pins: 1 RST (in), 2 TXD (out), 3 RXD (in), 4 NOPU# (in), 5 V3 (power), 6 UD+ (io), 7 UD- (io), 8 GND (power), 9 XI (in), 10 XO (out), 11 A0 (in), 12 A1 (in), 13 A2 (in), 14 A3 (in), 15 VCC (power), 16 INT# (out)

## CH374F
designator U?
USB Host & Device / Slave for MCU, parallel / SPI, Embed 3 Hub
footprint QFN28_4X4
pins: 0 GND (power), 1 UD2- (io), 2 SLP (out), 3 A0 (in), 4 V3 (power), 5 UD+ (io), 6 UD- (io), 7 UD1+ (io), 8 UD1- (io), 9 GND (power), 10 XI (in), 11 XO (out), 12 D0 (io), 13 D1 (io), 14 D2 (io), 15 SCS/D3 (io), 16 D4 (io), 17 SCK/D5 (io), 18 SDI/D6 (io), 19 SDO/D7 (io), 20 ACT# (out), 21 RST (out), 22 CS# (in), 23 VCC (power), 24 INT# (out), 25 RSTI (in), 26 WR# (in), 27 RD# (in), 28 UD2+ (io)

## CH374G
designator U?
USB Host & Device / Slave for MCU, SPI
footprint SOP16
pins: 1 RSTI (in), 2 GND (power), 3 V3 (power), 4 UD+ (io), 5 UD- (io), 6 UD1+ (io), 7 UD1- (io), 8 GND (power), 9 XI (in), 10 XO (out), 11 SCS# (in), 12 SCK (in), 13 SDI (in), 14 SDO (hiz), 15 VCC (power), 16 INT# (out)

## CH374S
designator U?
USB Host & Device / Slave for MCU, parallel / SPI
footprint SOP28
footprint DIP28
pins: 1 INT# (out), 2 RSTI (in), 3 WR# (in), 4 RD# (in), 5 UEN (in), 6 CKO (out), 7 SLP (out), 8 A0 (in), 9 V3 (power), 10 UD+ (io), 11 UD- (io), 12 GND (power), 13 XI (in), 14 XO (out), 15 D0 (io), 16 D1 (io), 17 D2 (io), 18 SCS/D3 (io), 19 D4 (io), 20 SCK/D5 (io), 21 SDI/D6 (io), 22 SDO/D7 (io), 23 GND (power), 24 ACT# (out), 25 RST (out), 26 RST# (out), 27 CS# (in), 28 VCC (power)

## CH374T
designator U?
USB Host & Device / Slave for MCU, parallel / SPI
footprint SSOP20
pins: 1 INT# (out), 2 WR# (in), 3 RD# (in), 4 A0 (in), 5 V3 (power), 6 UD+ (io), 7 UD- (io), 8 XI (in), 9 XO (out), 10 D0 (io), 11 D1 (io), 12 D2 (io), 13 SCS/D3 (io), 14 D4 (io), 15 SCK/D5 (io), 16 SDI/D6 (io), 17 SDO/D7 (io), 18 GND (power), 19 CS# (in), 20 VCC (power)

## CH374U
designator U?
USB Host & Device / Slave for MCU, parallel / SPI, Embed 3 Hub
footprint SSOP24
pins: 1 WR# (in), 2 RD# (in), 3 UD2+ (io), 4 UD2- (io), 5 A0 (in), 6 V3 (power), 7 UD+ (io), 8 UD- (io), 9 UD1+ (io), 10 UD1- (io), 11 XI (in), 12 XO (out), 13 D0 (io), 14 D1 (io), 15 D2 (io), 16 SCK/D3 (io), 17 D4 (io), 18 SCK/D5 (io), 19 SDI/D6 (io), 20 SDO/D7 (io), 21 GND (power), 22 CS# (in), 23 VCC (power), 24 INT# (out)

## CH375B
designator U?
USB Host & Device / Slave for MCU, parallel / UART Serial
footprint SOP28
footprint TSSOP28
footprint DIP28
pins: 1 INT# (out), 2 RSTI (in), 3 WR# (in), 4 RD# (in), 5 TXD (io), 6 RXD (in), 7 NC., 8 A0 (io), 9 V3 (power), 10 UD+ (io), 11 UD- (io), 12 GND (power), 13 XI (in), 14 XO (out), 15 D0 (io), 16 D1 (io), 17 D2 (io), 18 D3 (io), 19 D4 (io), 20 D5 (io), 21 D6 (io), 22 D7 (io), 23 GND (power), 24 ACT# (out), 25 RST (out), 26 RST# (out), 27 CS# (in), 28 VCC (power)

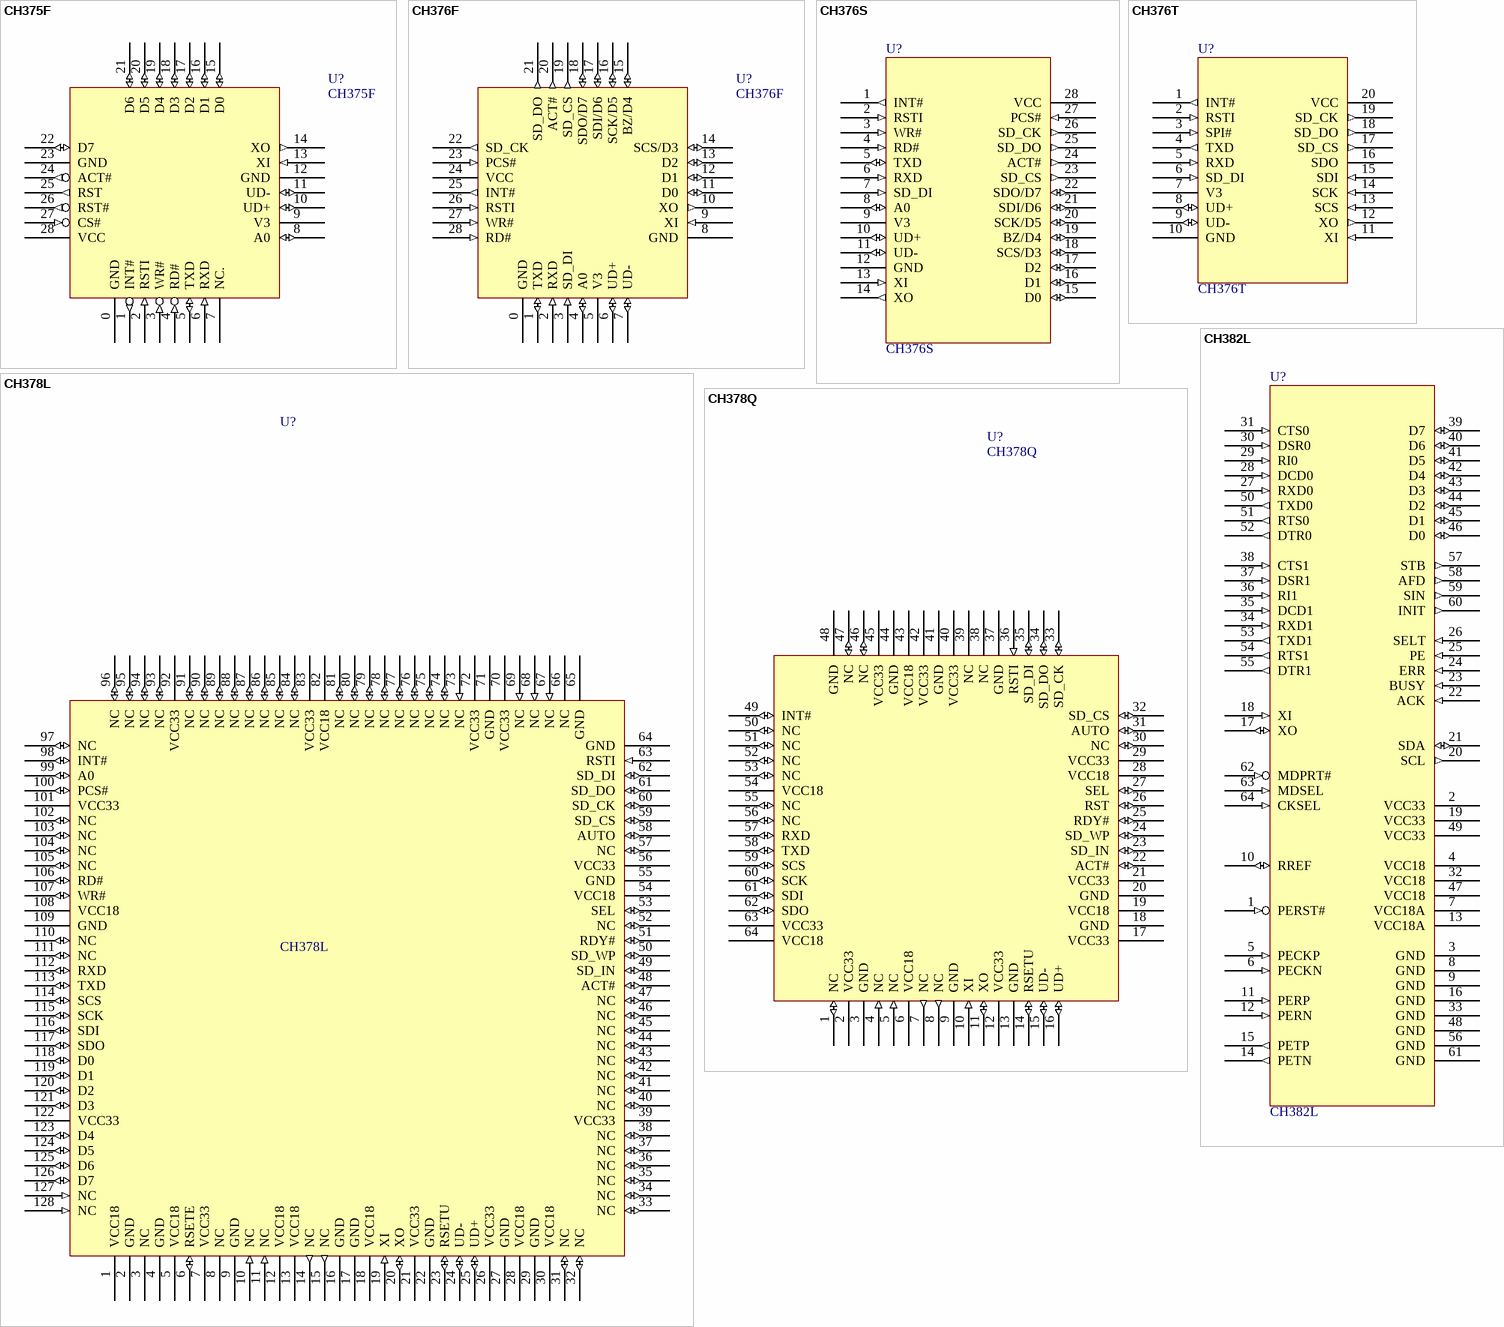
[diagram p22: symbols CH375F to CH382L]

## CH375F
designator U?
USB Host & Device / Slave for MCU, parallel / UART Serial
footprint QFN28_4X4
footprint DIP28
pins: 0 GND (power), 1 INT# (out), 2 RSTI (in), 3 WR# (in), 4 RD# (in), 5 TXD (io), 6 RXD (in), 7 NC., 8 A0 (io), 9 V3 (power), 10 UD+ (io), 11 UD- (io), 12 GND (power), 13 XI (in), 14 XO (out), 15 D0 (io), 16 D1 (io), 17 D2 (io), 18 D3 (io), 19 D4 (io), 20 D5 (io), 21 D6 (io), 22 D7 (io), 23 GND (power), 24 ACT# (out), 25 RST (out), 26 RST# (out), 27 CS# (in), 28 VCC (power)

## CH376F
designator U?
USB Host and SD card Host with File System & USB Device for MCU, parallel / SPI / UART Serial
footprint QFN28_4X4
footprint DIP28
pins: 0 GND (power), 1 TXD (io), 2 RXD (in), 3 SD_DI (in), 4 A0 (io), 5 V3 (power), 6 UD+ (io), 7 UD- (io), 8 GND (power), 9 XI (in), 10 XO (out), 11 D0 (io), 12 D1 (io), 13 D2 (io), 14 SCS/D3 (io), 15 BZ/D4 (io), 16 SCK/D5 (io), 17 SDI/D6 (io), 18 SDO/D7 (io), 19 SD_CS (out), 20 ACT# (out), 21 SD_DO (out), 22 SD_CK (out), 23 PCS# (in), 24 VCC (power), 25 INT# (out), 26 RSTI (in), 27 WR# (in), 28 RD# (in)

## CH376S
designator U?
USB Host and SD card Host with File System & USB Device for MCU, parallel / SPI / UART Serial
footprint SOP28
footprint DIP28
pins: 1 INT# (out), 2 RSTI (in), 3 WR# (in), 4 RD# (in), 5 TXD (io), 6 RXD (in), 7 SD_DI (in), 8 A0 (io), 9 V3 (power), 10 UD+ (io), 11 UD- (io), 12 GND (power), 13 XI (in), 14 XO (out), 15 D0 (io), 16 D1 (io), 17 D2 (io), 18 SCS/D3 (io), 19 BZ/D4 (io), 20 SCK/D5 (io), 21 SDI/D6 (io), 22 SDO/D7 (io), 23 SD_CS (out), 24 ACT# (out), 25 SD_DO (out), 26 SD_CK (out), 27 PCS# (in), 28 VCC (power)

## CH376T
designator U?
USB Host and SD card Host with File System & USB Device for MCU, SPI / UART Serial
footprint SSOP20
pins: 1 INT# (out), 2 RSTI (in), 3 SPI# (in), 4 TXD (out), 5 RXD (in), 6 SD_DI (in), 7 V3 (power), 8 UD+ (io), 9 UD- (io), 10 GND (power), 11 XI (in), 12 XO (out), 13 SCS (in), 14 SCK (in), 15 SDI (in), 16 SDO (hiz), 17 SD_CS (out), 18 SD_DO (out), 19 SD_CK (out), 20 VCC (power)

## CH378L
designator U?
USB2.0 Host with File System & USB Device for MCU, parallel / SPI / UART Serial
footprint LQFP128
pins: 1 VCC18 (power), 2 GND (power), 3 NC, 4 GND (power), 5 VCC18 (power), 6 RSETE (io), 7 VCC33 (power), 8 NC, 9 GND (power), 10 NC (in), 11 NC (in), 12 VCC18 (power), 13 VCC18 (power), 14 NC (out), 15 NC (out), 16 GND (power), 17 GND (power), 18 VCC18 (power), 19 XI (in), 20 XO (io), 21 VCC33 (power), 22 GND (power), 23 RSETU (io), 24 UD- (io), 25 UD+ (io), 26 VCC33 (power), 27 GND (power), 28 VCC18 (power), 29 GND (power), 30 VCC18 (power), 31 NC (io), 32 NC (io), 33 NC (io), 34 NC (io), 35 NC (io), 36 NC (io), 37 NC (io), 38 NC (io), 39 VCC33 (power), 40 NC (io), 41 NC (io), 42 NC (io), 43 NC (io), 44 NC (io), 45 NC (io), 46 NC (io), 47 NC (io), 48 ACT# (io), 49 SD_IN (io), 50 SD_WP (io), 51 RDY# (io), 52 NC (io), 53 SEL (io), 54 VCC18 (power), 55 GND (power), 56 VCC33 (power), 57 NC (io), 58 AUTO (io), 59 SD_CS (io), 60 SD_CK (io), 61 SD_DO (io), 62 SD_DI (io), 63 RSTI (in), 64 GND (power), 65 GND (power), 66 NC (power), 67 NC (in), 68 NC (in), 69 NC (in), 70 VCC33 (power), 71 GND (power), 72 VCC33 (power), 73 NC (in), 74 NC (io), 75 NC (io), 76 NC (io), 77 NC (io), 78 NC (io), 79 NC (io), 80 NC (io), 81 NC (io), 82 VCC18 (power), 83 VCC33 (power), 84 NC (io), 85 NC (io), 86 NC (io), 87 NC (io), 88 NC (io), 89 NC (io), 90 NC (io), 91 NC (io), 92 VCC33 (power), 93 NC (io), 94 NC (io), 95 NC (io), 96 NC (io), 97 NC (io), 98 INT# (io), 99 A0 (io), 100 PCS# (io), 101 VCC33 (power), 102 NC (io), 103 NC (io), 104 NC (io), 105 NC (io), 106 RD# (io), 107 WR# (io), 108 VCC18 (power), 109 GND (power), 110 NC (io), 111 NC (io), 112 RXD (io), 113 TXD (io), 114 SCS (io), 115 SCK (io), 116 SDI (io), 117 SDO (io), 118 D0 (io), 119 D1 (io), 120 D2 (io), 121 D3 (io), 122 VCC33 (power), 123 D4 (io), 124 D5 (io), 125 D6 (io), 126 D7 (io), 127 NC (in), 128 NC (in)

## CH378Q
designator U?
USB2.0 Host with File System & USB Device for MCU, parallel / SPI / UART Serial
footprint LQFP64M_10x10
pins: 1 NC (io), 2 VCC33 (power), 3 GND (power), 4 NC (in), 5 NC (in), 6 VCC18 (power), 7 NC (out), 8 NC (out), 9 GND (power), 10 XI (in), 11 XO (io), 12 VCC33 (power), 13 GND (power), 14 RSETU (io), 15 UD- (io), 16 UD+ (io), 17 VCC33 (power), 18 GND (power), 19 VCC18 (power), 20 GND (power), 21 VCC33 (power), 22 ACT# (io), 23 SD_IN (io), 24 SD_WP (io), 25 RDY# (io), 26 RST (io), 27 SEL (io), 28 VCC18 (power), 29 VCC33 (power), 30 NC (io), 31 AUTO (io), 32 SD_CS (io), 33 SD_CK (io), 34 SD_DO (io), 35 SD_DI (io), 36 RSTI (in), 37 GND (power), 38 NC (power), 39 NC, 40 VCC33 (power), 41 GND (power), 42 VCC33 (power), 43 VCC18 (power), 44 GND (power), 45 VCC33 (power), 46 NC (io), 47 NC (io), 48 GND (power), 49 INT# (io), 50 NC (io), 51 NC (io), 52 NC (io), 53 NC (io), 54 VCC18 (power), 55 NC (io), 56 NC (io), 57 RXD (io), 58 TXD (io), 59 SCS (io), 60 SCK (io), 61 SDI (io), 62 SDO (io), 63 VCC33 (power), 64 VCC18 (power)

## CH382L
designator U?
PCIe to 2S1P: Print Port / Parallel and Dual 16C550 UART with 256 byte FIFO
footprint LQFP64
pins: 1 PERST# (in), 2 VCC33 (power), 3 GND (power), 4 VCC18 (power), 5 PECKP (in), 6 PECKN (in), 7 VCC18A (power), 8 GND (power), 9 GND (power), 10 RREF (io), 11 PERP (in), 12 PERN (in), 13 VCC18A (power), 14 PETN (out), 15 PETP (out), 16 GND (power), 17 XO (io), 18 XI (in), 19 VCC33 (power), 20 SCL (out), 21 SDA (io), 22 ACK (in), 23 BUSY (in), 24 ERR (in), 25 PE (in), 26 SELT (in), 27 RXD0 (in), 28 DCD0 (in), 29 RI0 (in), 30 DSR0 (in), 31 CTS0 (in), 32 VCC18 (power), 33 GND (power), 34 RXD1 (in), 35 DCD1 (in), 36 RI1 (in), 37 DSR1 (in), 38 CTS1 (in), 39 D7 (io), 40 D6 (io), 41 D5 (io), 42 D4 (io), 43 D3 (io), 44 D2 (io), 45 D1 (io), 46 D0 (io), 47 VCC18 (power), 48 GND (power), 49 VCC33 (power), 50 TXD0 (out), 51 RTS0 (out), 52 DTR0 (out), 53 TXD1 (out), 54 RTS1 (out), 55 DTR1 (out), 56 GND (power), 57 STB (out), 58 AFD (out), 59 SIN (out), 60 INIT (out), 61 GND (power), 62 MDPRT# (in), 63 MDSEL (in), 64 CKSEL (in)

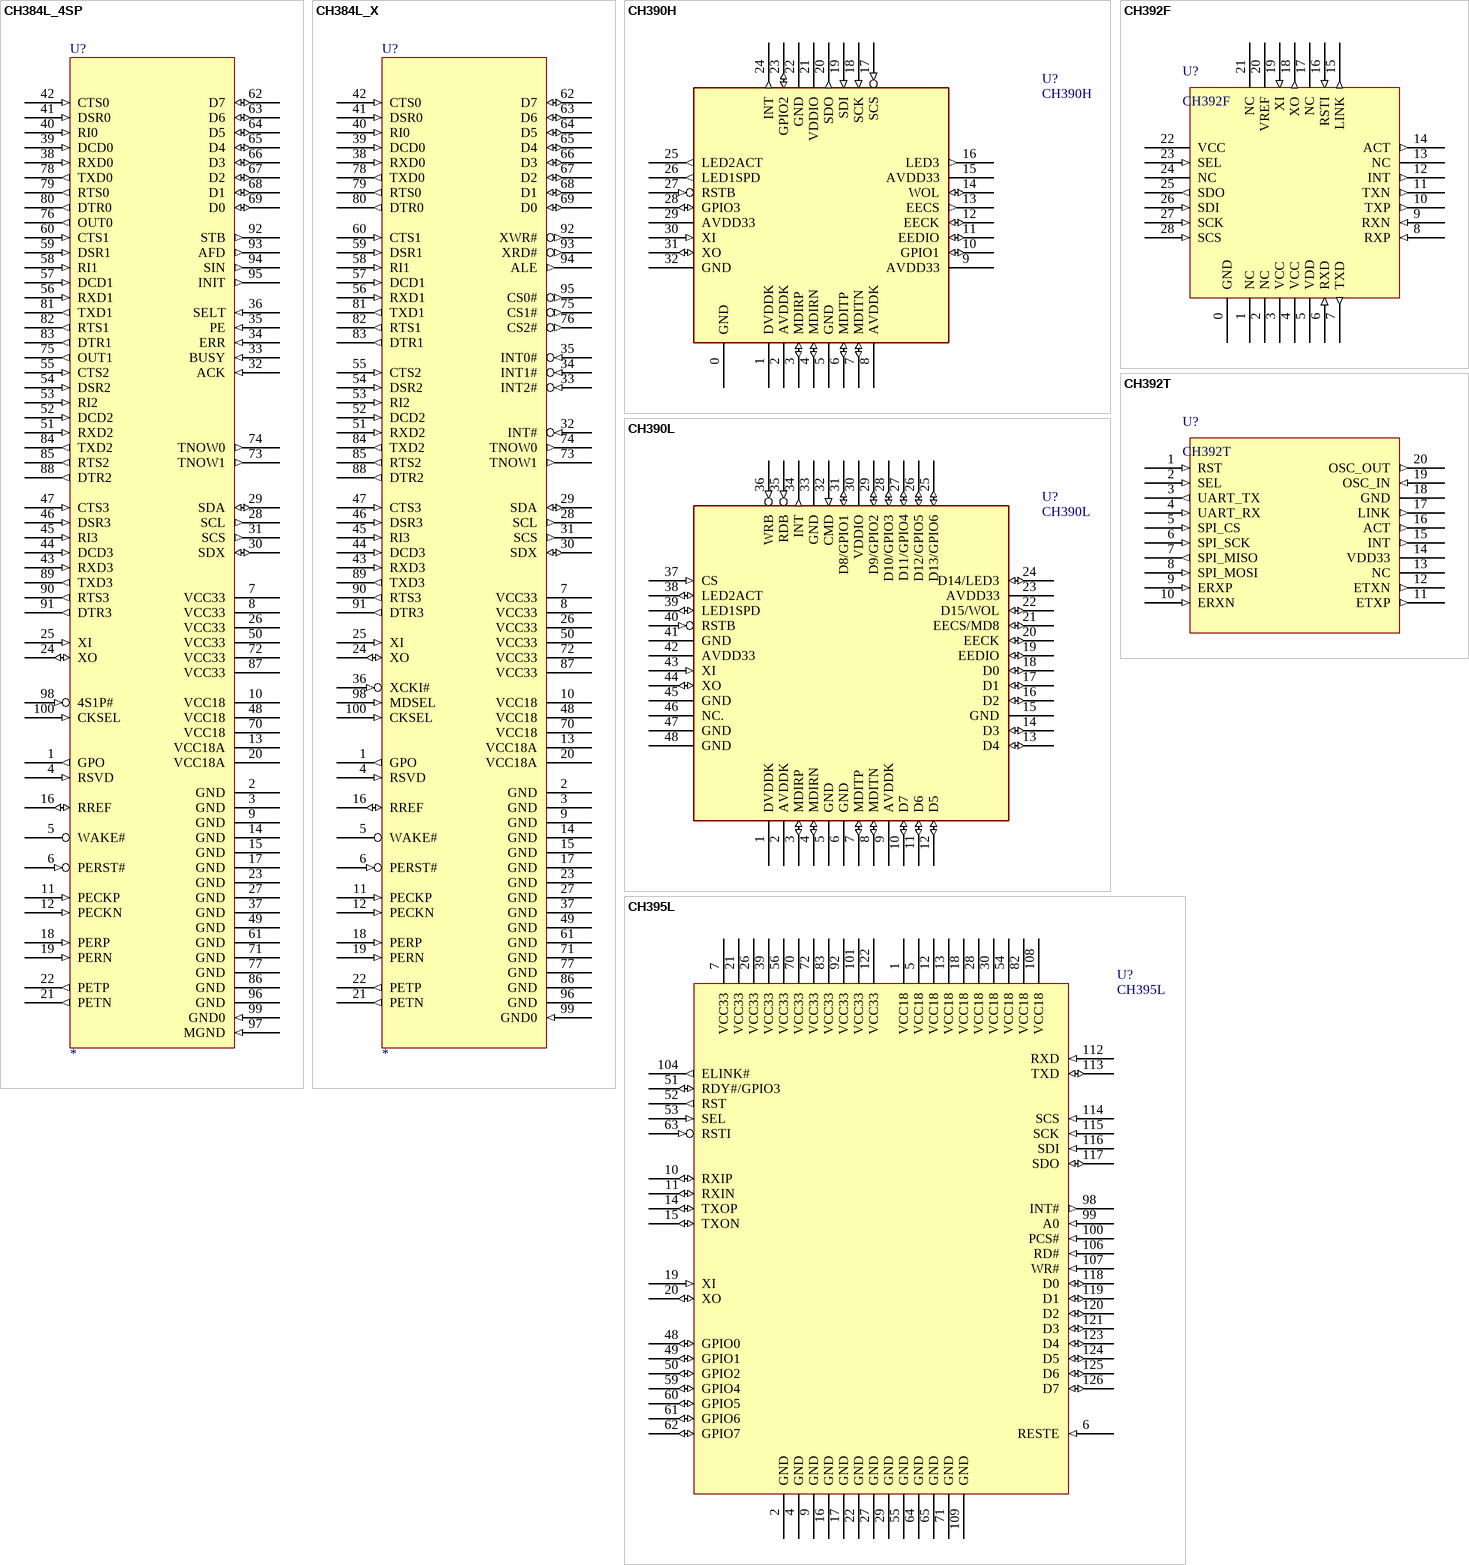
[diagram p23: symbols CH384L_4SP to CH395L]

## CH384L_4SP
designator U?
PCIe to 4S1P: Print Port / Parallel and Quad 16C550 UART with 256 byte FIFO
footprint LQFP100
pins: 1 GPO (out), 2 GND (power), 3 GND (power), 4 RSVD (in), 5 WAKE# (oc), 6 PERST# (in), 7 VCC33 (power), 8 VCC33 (power), 9 GND (power), 10 VCC18 (power), 11 PECKP (in), 12 PECKN (in), 13 VCC18A (power), 14 GND (power), 15 GND (power), 16 RREF (io), 17 GND (power), 18 PERP (in), 19 PERN (in), 20 VCC18A (power), 21 PETN (out), 22 PETP (out), 23 GND (power), 24 XO (io), 25 XI (in), 26 VCC33 (power), 27 GND (power), 28 SCL (out), 29 SDA (io), 30 SDX (io), 31 SCS (out), 32 ACK (in), 33 BUSY (in), 34 ERR (in), 35 PE (in), 36 SELT (in), 37 GND (power), 38 RXD0 (in), 39 DCD0 (in), 40 RI0 (in), 41 DSR0 (in), 42 CTS0 (in), 43 RXD3 (in), 44 DCD3 (in), 45 RI3 (in), 46 DSR3 (in), 47 CTS3 (in), 48 VCC18 (power), 49 GND (power), 50 VCC33 (power), 51 RXD2 (in), 52 DCD2 (in), 53 RI2 (in), 54 DSR2 (in), 55 CTS2 (in), 56 RXD1 (in), 57 DCD1 (in), 58 RI1 (in), 59 DSR1 (in), 60 CTS1 (in), 61 GND (power), 62 D7 (io), 63 D6 (io), 64 D5 (io), 65 D4 (io), 66 D3 (io), 67 D2 (io), 68 D1 (io), 69 D0 (io), 70 VCC18 (power), 71 GND (power), 72 VCC33 (power), 73 TNOW1 (out), 74 TNOW0 (out), 75 OUT1 (out), 76 OUT0 (out), 77 GND (power), 78 TXD0 (out), 79 RTS0 (out), 80 DTR0 (out), 81 TXD1 (out), 82 RTS1 (out), 83 DTR1 (out), 84 TXD2 (out), 85 RTS2 (out), 86 GND (power), 87 VCC33 (power), 88 DTR2 (out), 89 TXD3 (out), 90 RTS3 (out), 91 DTR3 (out), 92 STB (out), 93 AFD (out), 94 SIN (out), 95 INIT (out), 96 GND (power), 97 MGND (in), 98 4S1P# (in), 99 GND0 (in), 100 CKSEL (in)

## CH384L_X
designator U?
PCIe to 8S or 28S: External 8 or 24*UART
footprint LQFP100
pins: 1 GPO (out), 2 GND (power), 3 GND (power), 4 RSVD (in), 5 WAKE# (oc), 6 PERST# (in), 7 VCC33 (power), 8 VCC33 (power), 9 GND (power), 10 VCC18 (power), 11 PECKP (in), 12 PECKN (in), 13 VCC18A (power), 14 GND (power), 15 GND (power), 16 RREF (io), 17 GND (power), 18 PERP (in), 19 PERN (in), 20 VCC18A (power), 21 PETN (out), 22 PETP (out), 23 GND (power), 24 XO (io), 25 XI (in), 26 VCC33 (power), 27 GND (power), 28 SCL (out), 29 SDA (io), 30 SDX (io), 31 SCS (out), 32 INT# (in), 33 INT2# (in), 34 INT1# (in), 35 INT0# (in), 36 XCKI# (in), 37 GND (power), 38 RXD0 (in), 39 DCD0 (in), 40 RI0 (in), 41 DSR0 (in), 42 CTS0 (in), 43 RXD3 (in), 44 DCD3 (in), 45 RI3 (in), 46 DSR3 (in), 47 CTS3 (in), 48 VCC18 (power), 49 GND (power), 50 VCC33 (power), 51 RXD2 (in), 52 DCD2 (in), 53 RI2 (in), 54 DSR2 (in), 55 CTS2 (in), 56 RXD1 (in), 57 DCD1 (in), 58 RI1 (in), 59 DSR1 (in), 60 CTS1 (in), 61 GND (power), 62 D7 (io), 63 D6 (io), 64 D5 (io), 65 D4 (io), 66 D3 (io), 67 D2 (io), 68 D1 (io), 69 D0 (io), 70 VCC18 (power), 71 GND (power), 72 VCC33 (power), 73 TNOW1 (out), 74 TNOW0 (out), 75 CS1# (out), 76 CS2# (out), 77 GND (power), 78 TXD0 (out), 79 RTS0 (out), 80 DTR0 (out), 81 TXD1 (out), 82 RTS1 (out), 83 DTR1 (out), 84 TXD2 (out), 85 RTS2 (out), 86 GND (power), 87 VCC33 (power), 88 DTR2 (out), 89 TXD3 (out), 90 RTS3 (out), 91 DTR3 (out), 92 XWR# (out), 93 XRD# (out), 94 ALE (out), 95 CS0# (out), 96 GND (power), 98 MDSEL (in), 99 GND0 (in), 100 CKSEL (in)

## CH390H
designator U?
SPI to 10/100M Ethernet MAC & PHY
footprint QFN32_5X5 (Footprint not found)
pins: 0 GND (power), 1 DVDDK (power), 2 AVDDK (power), 3 MDIRP (io), 4 MDIRN (io), 5 GND (power), 6 MDITP (io), 7 MDITN (io), 8 AVDDK (power), 9 AVDD33 (power), 10 GPIO1 (io), 11 EEDIO (io), 12 EECK (io), 13 EECS (out), 14 WOL (io), 15 AVDD33 (power), 16 LED3 (out), 17 SCS (in), 18 SCK (in), 19 SDI (in), 20 SDO (out), 21 VDDIO (power), 22 GND (power), 23 GPIO2 (io), 24 INT (out), 25 LED2ACT (out), 26 LED1SPD (out), 27 RSTB (in), 28 GPIO3 (io), 29 AVDD33 (power), 30 XI (in), 31 XO (io), 32 GND (power)
2 alternate drawings of the same symbol

## CH390L
designator U?
Parallel to 10/100M Ethernet MAC & PHY
footprint LQFP48 (Footprint not found)
pins: 1 DVDDK (power), 2 AVDDK (power), 3 MDIRP (io), 4 MDIRN (io), 5 GND (power), 6 GND (power), 7 MDITP (io), 8 MDITN (io), 9 AVDDK (power), 10 D7 (io), 11 D6 (io), 12 D5 (io), 13 D4 (io), 14 D3 (io), 15 GND (power), 16 D2 (io), 17 D1 (io), 18 D0 (io), 19 EEDIO (io), 20 EECK (io), 21 EECS/MD8 (io), 22 D15/WOL (io), 23 AVDD33 (power), 24 D14/LED3 (io), 25 D13/GPIO6 (io), 26 D12/GPIO5 (io), 27 D11/GPIO4 (io), 28 D10/GPIO3 (io), 29 D9/GPIO2 (io), 30 VDDIO (power), 31 D8/GPIO1 (io), 32 CMD (in), 33 GND (power), 34 INT (out), 35 RDB (in), 36 WRB (in), 37 CS (in), 38 LED2ACT (io), 39 LED1SPD (io), 40 RSTB (in), 41 GND (power), 42 AVDD33 (power), 43 XI (in), 44 XO (io), 45 GND (power), 46 NC., 47 GND (power), 48 GND (power)
2 alternate drawings of the same symbol

## CH392F
designator U?
TCP/IP embedded 10M ethernet controller for MCU connecting internet, UART/SPI
footprint QFN28_4X4
pins: 0 GND (power), 1 NC, 2 NC, 3 VCC (power), 4 VCC (power), 5 VDD (power), 6 RXD (in), 7 TXD (out), 8 RXP (in), 9 RXN (in), 10 TXP (out), 11 TXN (out), 12 INT (out), 13 NC, 14 ACT (out), 15 LINK (out), 16 RSTI (in), 17 NC, 18 XO (out), 19 XI (in), 20 VREF (hiz), 21 NC, 22 VCC (power), 23 SEL (in), 24 NC, 25 SDO (out), 26 SDI (in), 27 SCK (in), 28 SCS (in)

## CH392T
designator U?
TCP/IP embedded 10M ethernet controller for MCU connecting internet, UART/SPI
footprint TSSOP20
pins: 1 RST (in), 2 SEL (in), 3 UART_TX (out), 4 UART_RX (in), 5 SPI_CS (in), 6 SPI_SCK (in), 7 SPI_MISO (out), 8 SPI_MOSI (in), 9 ERXP (in), 10 ERXN (in), 11 ETXP (out), 12 ETXN (out), 13 NC, 14 VDD33 (power), 15 INT (out), 16 ACT (out), 17 LINK (out), 18 GND (power), 19 OSC_IN (in), 20 OSC_OUT (out)

## CH395L
designator U?
TCP/IP embedded 100Mbps ethernet controller for MCU connecting internet
footprint LQFP128
pins: 1 VCC18 (power), 2 GND (power), 4 GND (power), 5 VCC18 (power), 6 RESTE (in), 7 VCC33 (power), 9 GND (power), 10 RXIP (io), 11 RXIN (io), 12 VCC18 (power), 13 VCC18 (power), 14 TXOP (io), 15 TXON (io), 16 GND (power), 17 GND (power), 18 VCC18 (power), 19 XI (in), 20 XO (io), 21 VCC33 (power), 22 GND (power), 26 VCC33 (power), 27 GND (power), 28 VCC18 (power), 29 GND (power), 30 VCC18 (power), 39 VCC33 (power), 48 GPIO0 (io), 49 GPIO1 (io), 50 GPIO2 (io), 51 RDY#/GPIO3 (io), 52 RST (out), 53 SEL (in), 54 VCC18 (power), 55 GND (power), 56 VCC33 (power), 59 GPIO4 (io), 60 GPIO5 (io), 61 GPIO6 (io), 62 GPIO7 (io), 63 RSTI (in), 64 GND (power), 65 GND (power), 70 VCC33 (power), 71 GND (power), 72 VCC33 (power), 82 VCC18 (power), 83 VCC33 (power), 92 VCC33 (power), 98 INT# (out), 99 A0 (in), 100 PCS# (in), 101 VCC33 (power), 104 ELINK# (out), 106 RD# (in), 107 WR# (in), 108 VCC18 (power), 109 GND (power), 112 RXD (in), 113 TXD (io), 114 SCS (in), 115 SCK (in), 116 SDI (in), 117 SDO (io), 118 D0 (io), 119 D1 (io), 120 D2 (io), 121 D3 (io), 122 VCC33 (power), 123 D4 (io), 124 D5 (io), 125 D6 (io), 126 D7 (io)

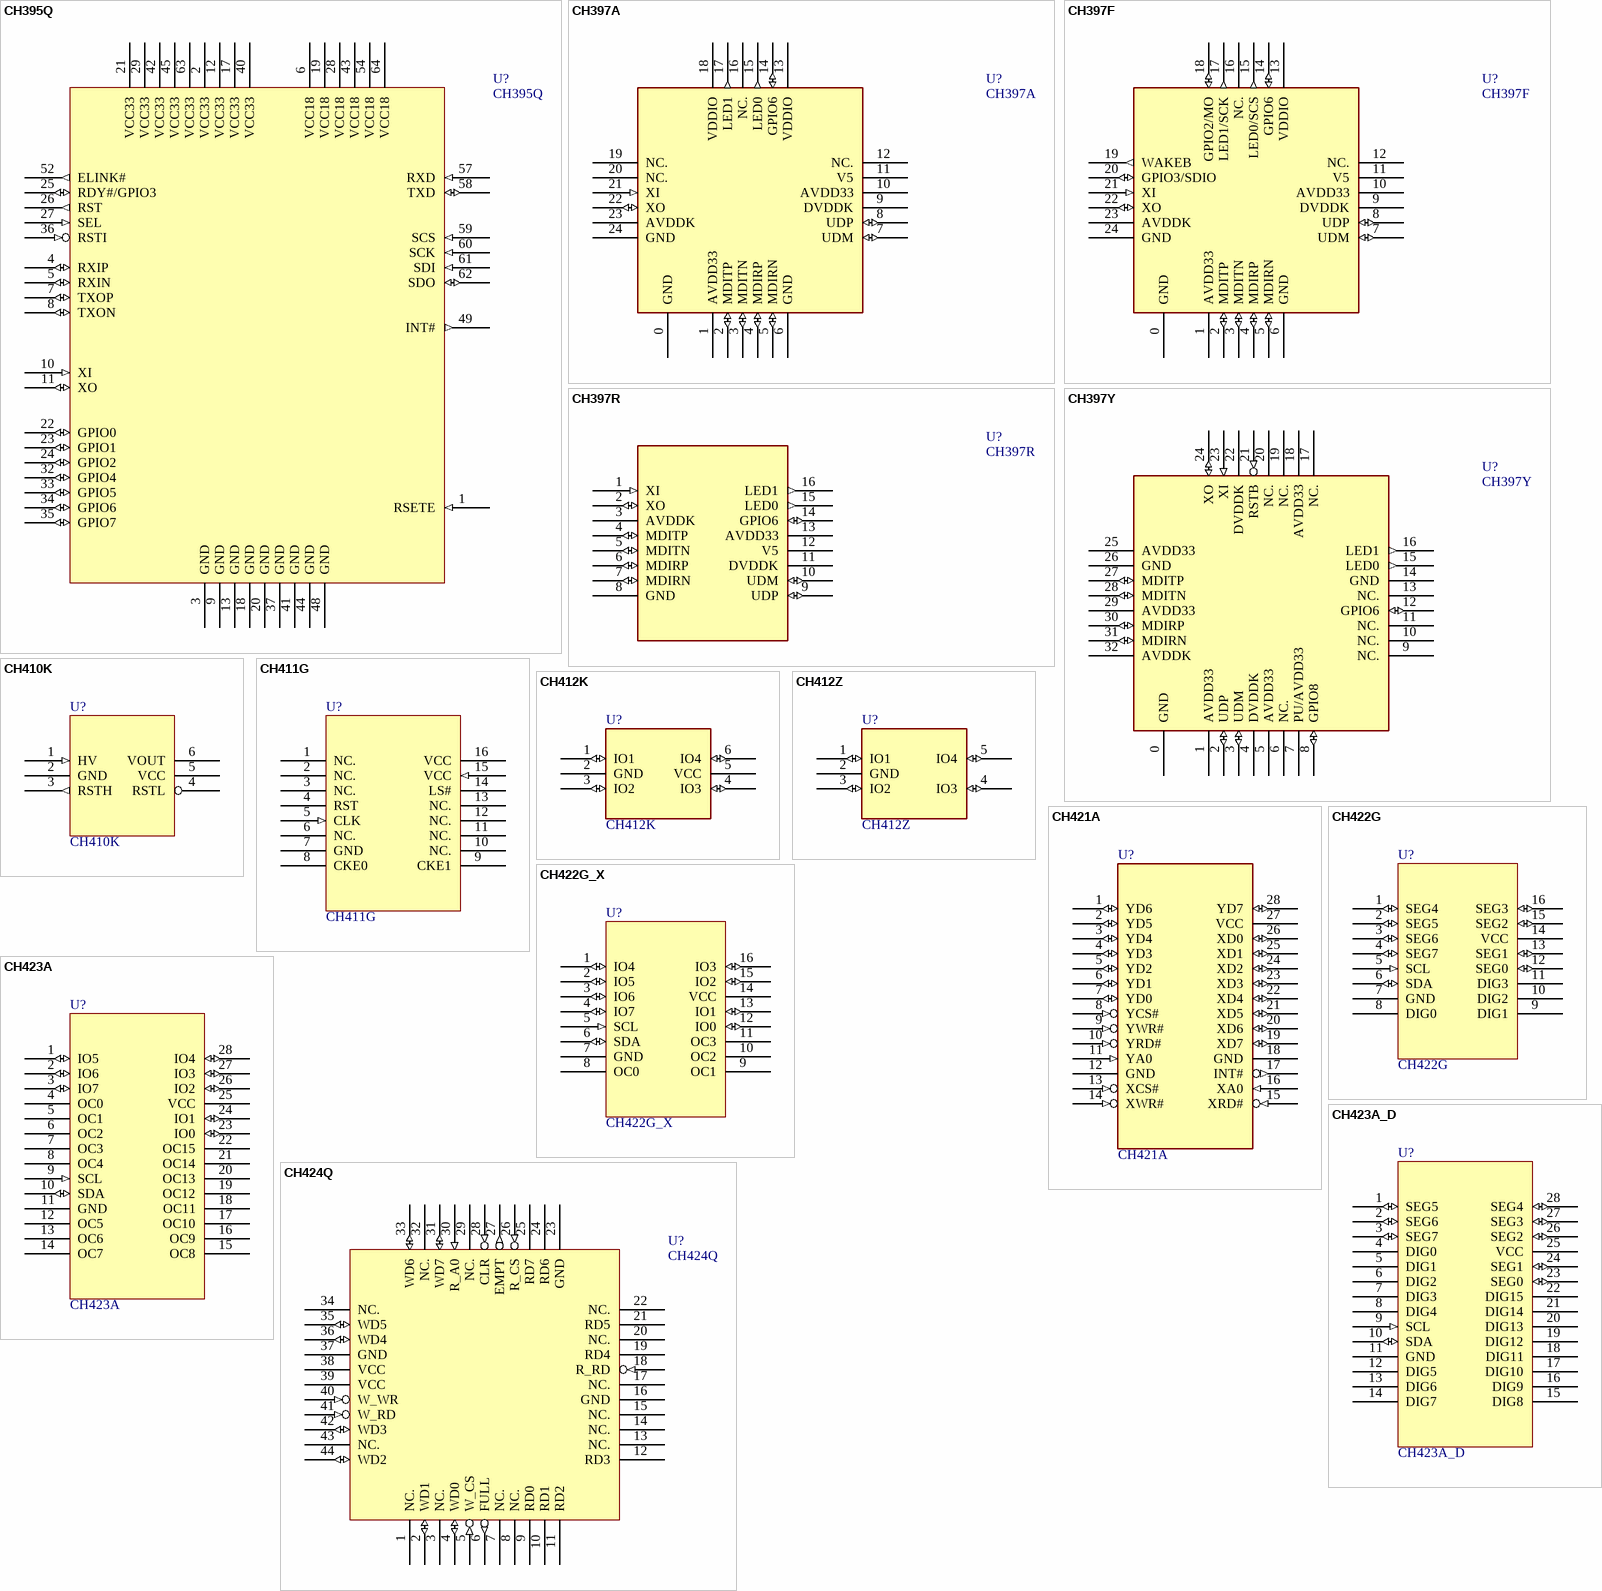
[diagram p24: symbols CH395Q to CH424Q]

## CH395Q
designator U?
TCP/IP embedded 100Mbps ethernet controller for MCU connecting internet
footprint LQFP64M_10x10
pins: 1 RSETE (in), 2 VCC33 (power), 3 GND (power), 4 RXIP (io), 5 RXIN (io), 6 VCC18 (power), 7 TXOP (io), 8 TXON (io), 9 GND (power), 10 XI (in), 11 XO (io), 12 VCC33 (power), 13 GND (power), 17 VCC33 (power), 18 GND (power), 19 VCC18 (power), 20 GND (power), 21 VCC33 (power), 22 GPIO0 (io), 23 GPIO1 (io), 24 GPIO2 (io), 25 RDY#/GPIO3 (io), 26 RST (out), 27 SEL (in), 28 VCC18 (power), 29 VCC33 (power), 32 GPIO4 (io), 33 GPIO5 (io), 34 GPIO6 (io), 35 GPIO7 (io), 36 RSTI (in), 37 GND (power), 40 VCC33 (power), 41 GND (power), 42 VCC33 (power), 43 VCC18 (power), 44 GND (power), 45 VCC33 (power), 48 GND (power), 49 INT# (out), 52 ELINK# (out), 54 VCC18 (power), 57 RXD (in), 58 TXD (io), 59 SCS (in), 60 SCK (in), 61 SDI (in), 62 SDO (io), 63 VCC33 (power), 64 VCC18 (power)

## CH397A
designator U?
USB2.0 to 10/100M Fast Ethernet with Driver Flash
footprint QFN24_4X4 (Footprint not found)
pins: 0 GND (power), 1 AVDD33 (power), 2 MDITP (io), 3 MDITN (io), 4 MDIRP (io), 5 MDIRN (io), 6 GND (power), 7 UDM (io), 8 UDP (io), 9 DVDDK (power), 10 AVDD33 (power), 11 V5 (power), 12 NC., 13 VDDIO (power), 14 GPIO6 (io), 15 LED0 (out), 16 NC., 17 LED1 (out), 18 VDDIO (power), 19 NC., 20 NC., 21 XI (in), 22 XO (io), 23 AVDDK (power), 24 GND (power)
2 alternate drawings of the same symbol

## CH397F
designator U?
USB2.0 to 10/100M Fast Ethernet
footprint QFN24_4X4 (Footprint not found)
pins: 0 GND (power), 1 AVDD33 (power), 2 MDITP (io), 3 MDITN (io), 4 MDIRP (io), 5 MDIRN (io), 6 GND (power), 7 UDM (io), 8 UDP (io), 9 DVDDK (power), 10 AVDD33 (power), 11 V5 (power), 12 NC., 13 VDDIO (power), 14 GPIO6 (io), 15 LED0/SCS (out), 16 NC., 17 LED1/SCK (out), 18 GPIO2/MO (io), 19 WAKEB (out), 20 GPIO3/SDIO (io), 21 XI (in), 22 XO (io), 23 AVDDK (power), 24 GND (power)
2 alternate drawings of the same symbol

## CH397R
designator U?
USB2.0 to 10/100M Fast Ethernet with Driver Flash
footprint QSOP16 (Footprint not found)
pins: 1 XI (in), 2 XO (io), 3 AVDDK (power), 4 MDITP (io), 5 MDITN (io), 6 MDIRP (io), 7 MDIRN (io), 8 GND (power), 9 UDP (io), 10 UDM (io), 11 DVDDK (power), 12 V5 (power), 13 AVDD33 (power), 14 GPIO6 (io), 15 LED0 (out), 16 LED1 (out)
2 alternate drawings of the same symbol

## CH397Y
designator U?
USB2.0 to 10/100M Fast Ethernet with Driver Flash
footprint QFN32_4X4 (Footprint not found)
pins: 0 GND (power), 1 AVDD33 (power), 2 UDP (io), 3 UDM (io), 4 DVDDK (power), 5 AVDD33 (power), 6 NC., 7 PU/AVDD33 (power), 8 GPIO8 (io), 9 NC., 10 NC., 11 NC., 12 GPIO6 (io), 13 NC., 14 GND (power), 15 LED0 (out), 16 LED1 (out), 17 NC., 18 AVDD33 (power), 19 NC., 20 NC., 21 RSTB (in), 22 DVDDK (power), 23 XI (in), 24 XO (io), 25 AVDD33 (power), 26 GND (power), 27 MDITP (io), 28 MDITN (io), 29 AVDD33 (power), 30 MDIRP (io), 31 MDIRN (io), 32 AVDDK (power)
2 alternate drawings of the same symbol

## CH410K
designator U?
PowerOnReset & LowVoltageReset, voltage monitor
footprint SOT-363
pins: 1 HV (in), 2 GND (power), 3 RSTH (out), 4 RSTL (oc), 5 VCC (power), 6 VOUT (power)
2 alternate drawings of the same symbol

## CH411G
designator U?
Work state monitor
footprint SOP16
pins: 1 NC., 2 NC., 3 NC., 4 RST (oc), 5 CLK (in), 6 NC., 7 GND (power), 8 CKE0 (oc), 9 CKE1 (oc), 10 NC., 11 NC., 12 NC., 13 NC., 14 LS# (oc), 15 VCC (in), 16 VCC (power)

## CH412K
designator U?
Qaud ESD protect, high speed
footprint SOT-363
pins: 1 IO1 (io), 2 GND (power), 3 IO2 (io), 4 IO3 (io), 5 VCC (power), 6 IO4 (io)

## CH412Z
designator U?
Quad ESD protect, low speed
footprint SOT-353
pins: 1 IO1 (io), 2 GND (power), 3 IO2 (io), 4 IO3 (io), 5 IO4 (io)

## CH421A
designator U?
Dual port buffer, 66 byte
footprint SOP28
pins: 1 YD6 (io), 2 YD5 (io), 3 YD4 (io), 4 YD3 (io), 5 YD2 (io), 6 YD1 (io), 7 YD0 (io), 8 YCS# (in), 9 YWR# (in), 10 YRD# (in), 11 YA0 (in), 12 GND (power), 13 XCS# (in), 14 XWR# (in), 15 XRD# (in), 16 XA0 (in), 17 INT# (out), 18 GND (power), 19 XD7 (io), 20 XD6 (io), 21 XD5 (io), 22 XD4 (io), 23 XD3 (io), 24 XD2 (io), 25 XD1 (io), 26 XD0 (io), 27 VCC (power), 28 YD7 (io)

## CH422G
designator U?
I2C/IIC I/O expander, GPIO, 8-Seg * 4 / 32 LEDs Drive
footprint SOP16
pins: 1 SEG4 (io), 2 SEG5 (io), 3 SEG6 (io), 4 SEG7 (io), 5 SCL (in), 6 SDA (io), 7 GND (power), 8 DIG0 (oc), 9 DIG1 (oc), 10 DIG2 (oc), 11 DIG3 (oc), 12 SEG0 (io), 13 SEG1 (io), 14 VCC (power), 15 SEG2 (io), 16 SEG3 (io)

## CH422G_X
designator U?
I2C/IIC I/O expander, 4 GPO + 8 GPIO/OC
footprint SOP16
pins: 1 IO4 (io), 2 IO5 (io), 3 IO6 (io), 4 IO7 (io), 5 SCL (in), 6 SDA (io), 7 GND (power), 8 OC0 (oc), 9 OC1 (oc), 10 OC2 (oc), 11 OC3 (oc), 12 IO0 (io), 13 IO1 (io), 14 VCC (power), 15 IO2 (io), 16 IO3 (io)

## CH423A
designator U?
I2C/IIC I/O expander, 16 GPO + 8 GPIO
footprint SOP28
footprint DIP28S
pins: 1 IO5 (io), 2 IO6 (io), 3 IO7 (io), 4 OC0 (oc), 5 OC1 (oc), 6 OC2 (oc), 7 OC3 (oc), 8 OC4 (oc), 9 SCL (in), 10 SDA (io), 11 GND (power), 12 OC5 (oc), 13 OC6 (oc), 14 OC7 (oc), 15 OC8 (oc), 16 OC9 (oc), 17 OC10 (oc), 18 OC11 (oc), 19 OC12 (oc), 20 OC13 (oc), 21 OC14 (oc), 22 OC15 (oc), 23 IO0 (io), 24 IO1 (io), 25 VCC (power), 26 IO2 (io), 27 IO3 (io), 28 IO4 (io)

## CH423A_D
designator U?
I2C/IIC I/O expander, GPIO, 8-Seg * 16 / 128 LEDs Drive
footprint SOP28
footprint DIP28S
pins: 1 SEG5 (io), 2 SEG6 (io), 3 SEG7 (io), 4 DIG0 (oc), 5 DIG1 (oc), 6 DIG2 (oc), 7 DIG3 (oc), 8 DIG4 (oc), 9 SCL (in), 10 SDA (io), 11 GND (power), 12 DIG5 (oc), 13 DIG6 (oc), 14 DIG7 (oc), 15 DIG8 (oc), 16 DIG9 (oc), 17 DIG10 (oc), 18 DIG11 (oc), 19 DIG12 (oc), 20 DIG13 (oc), 21 DIG14 (oc), 22 DIG15 (oc), 23 SEG0 (io), 24 SEG1 (io), 25 VCC (power), 26 SEG2 (io), 27 SEG3 (io), 28 SEG4 (io)

## CH424Q
designator U?
FIFO, 4K byte * 8 bit
footprint LQFP44
pins: 1 NC., 2 WD1 (io), 3 NC., 4 WD0 (io), 5 W_CS (in), 6 FULL (out), 7 NC., 8 NC., 9 RD0 (hiz), 10 RD1 (hiz), 11 RD2 (hiz), 12 RD3 (hiz), 13 NC., 14 NC., 15 NC., 16 GND (power), 17 NC., 18 R_RD (in), 19 RD4 (hiz), 20 NC., 21 RD5 (hiz), 22 NC., 23 GND (power), 24 RD6 (hiz), 25 RD7 (hiz), 26 R_CS (in), 27 EMPT (out), 28 CLR (in), 29 NC., 30 R_A0 (in), 31 WD7 (io), 32 NC., 33 WD6 (io), 34 NC., 35 WD5 (io), 36 WD4 (io), 37 GND (power), 38 VCC (power), 39 VCC (power), 40 W_WR (in), 41 W_RD (in), 42 WD3 (io), 43 NC., 44 WD2 (io)

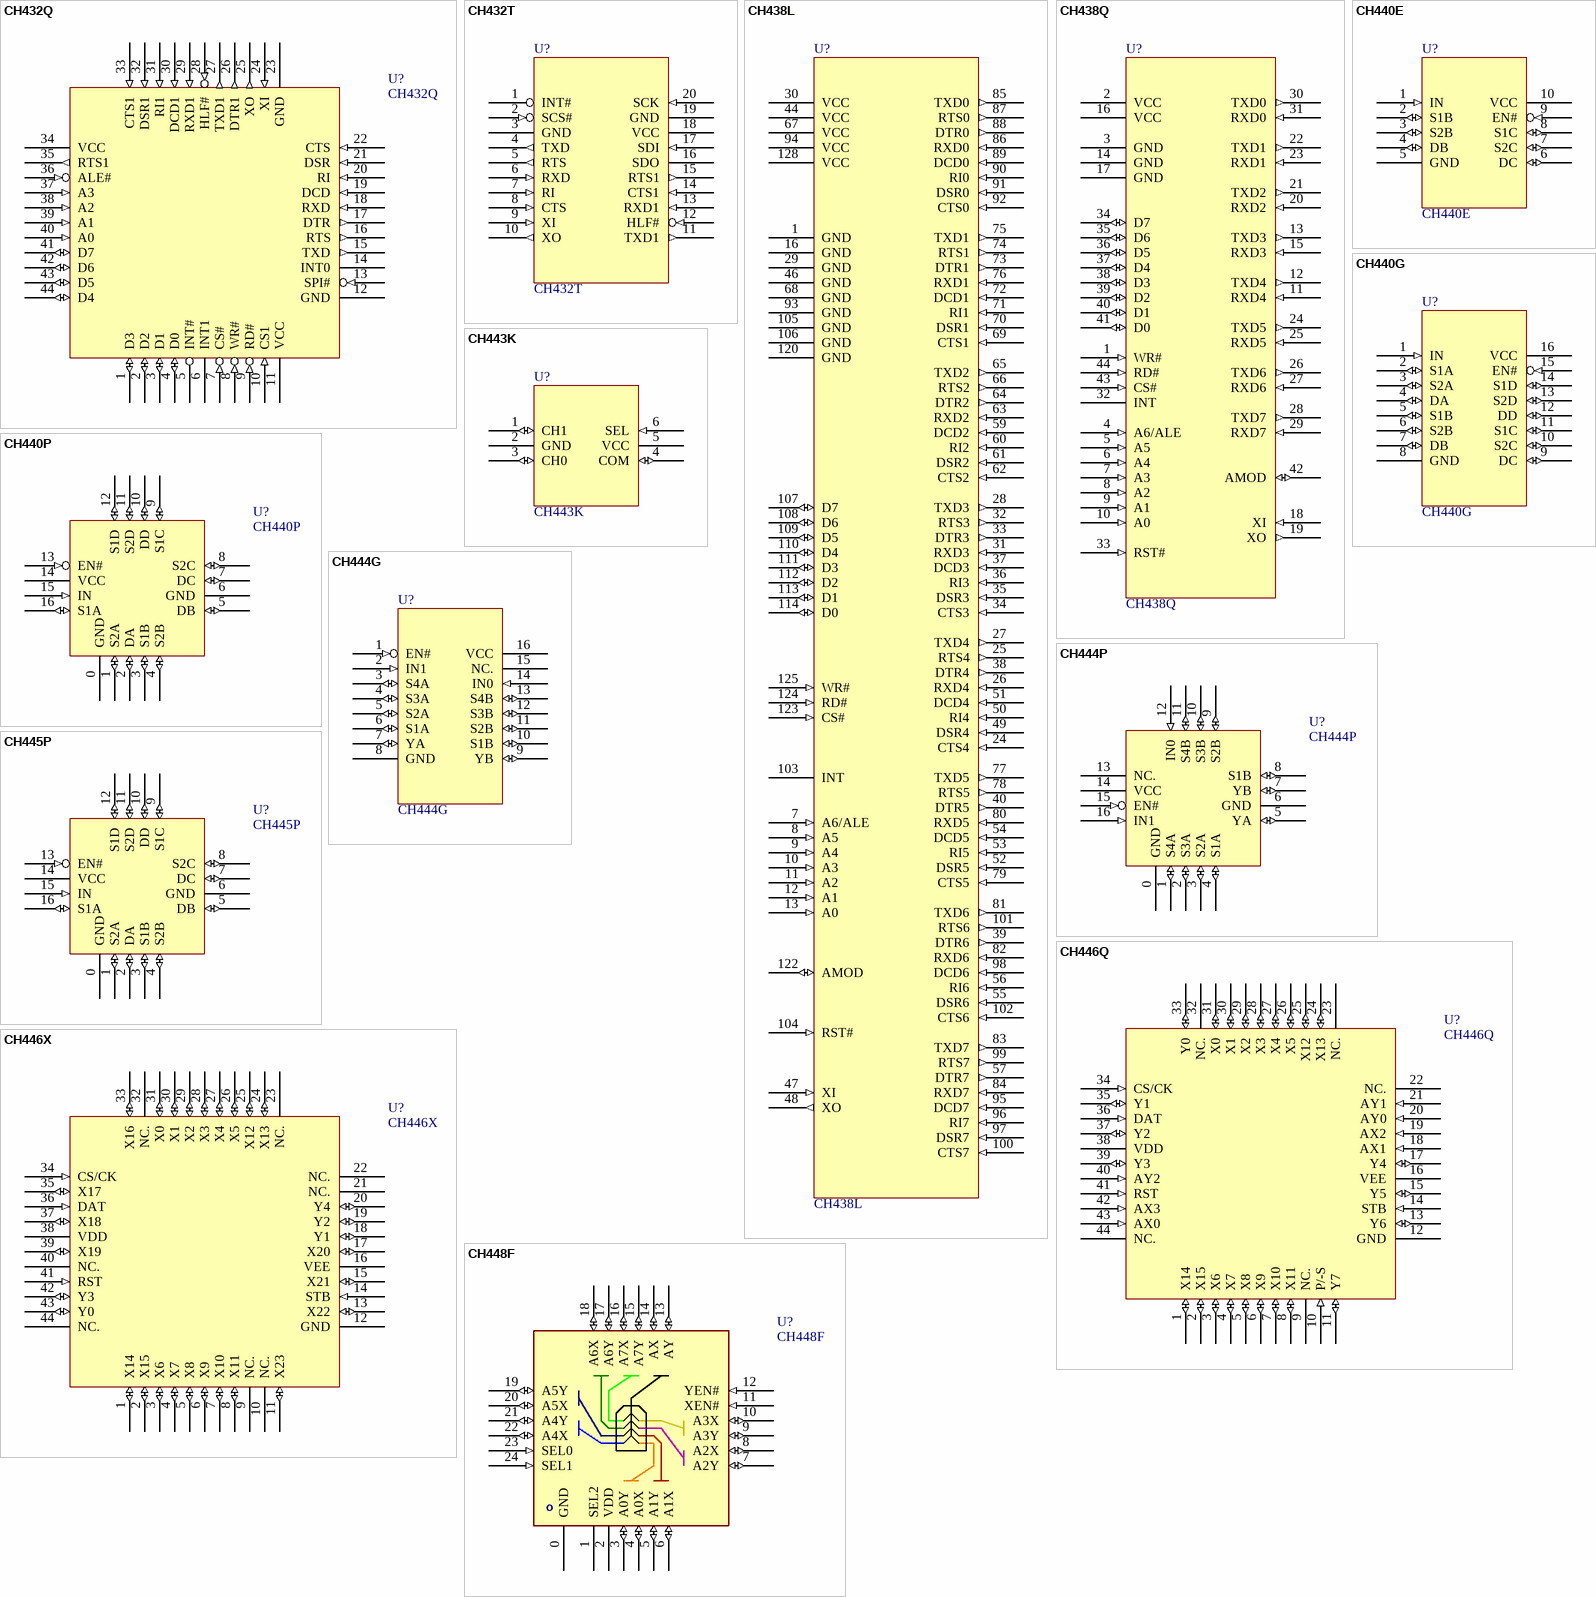
[diagram p25: symbols CH432Q to CH448F]

## CH432Q
designator U?
Dual 16C550 UART with IrDA, parallel / SPI
footprint LQFP44
pins: 1 D3 (io), 2 D2 (io), 3 D1 (io), 4 D0 (io), 5 INT# (oc), 6 INT1 (hiz), 7 CS# (in), 8 WR# (in), 9 RD# (in), 10 CS1 (in), 11 VCC (power), 12 GND (power), 13 SPI# (in), 14 INT0 (hiz), 15 TXD (out), 16 RTS (out), 17 DTR (out), 18 RXD (in), 19 DCD (in), 20 RI (in), 21 DSR (in), 22 CTS (in), 23 GND (power), 24 XI (in), 25 XO (out), 26 DTR1 (out), 27 TXD1 (out), 28 HLF# (in), 29 RXD1 (in), 30 DCD1 (in), 31 RI1 (in), 32 DSR1 (in), 33 CTS1 (in), 34 VCC (power), 35 RTS1 (out), 36 ALE# (in), 37 A3 (in), 38 A2 (in), 39 A1 (in), 40 A0 (in), 41 D7 (io), 42 D6 (io), 43 D5 (io), 44 D4 (io)

## CH432T
designator U?
SPI Dual 16C550 UART with IrDA
footprint SSOP20
pins: 1 INT# (oc), 2 SCS# (in), 3 GND (power), 4 TXD (out), 5 RTS (out), 6 RXD (in), 7 RI (in), 8 CTS (in), 9 XI (in), 10 XO (out), 11 TXD1 (out), 12 HLF# (in), 13 RXD1 (in), 14 CTS1 (in), 15 RTS1 (out), 16 SDO (hiz), 17 SDI (in), 18 VCC (power), 19 GND (power), 20 SCK (in)